# Altium schematic symbol library frames.SCHLIB: 30 symbols (part 1 of 2)
Pins are listed as number, name and electrical type; pins without a type are passive.

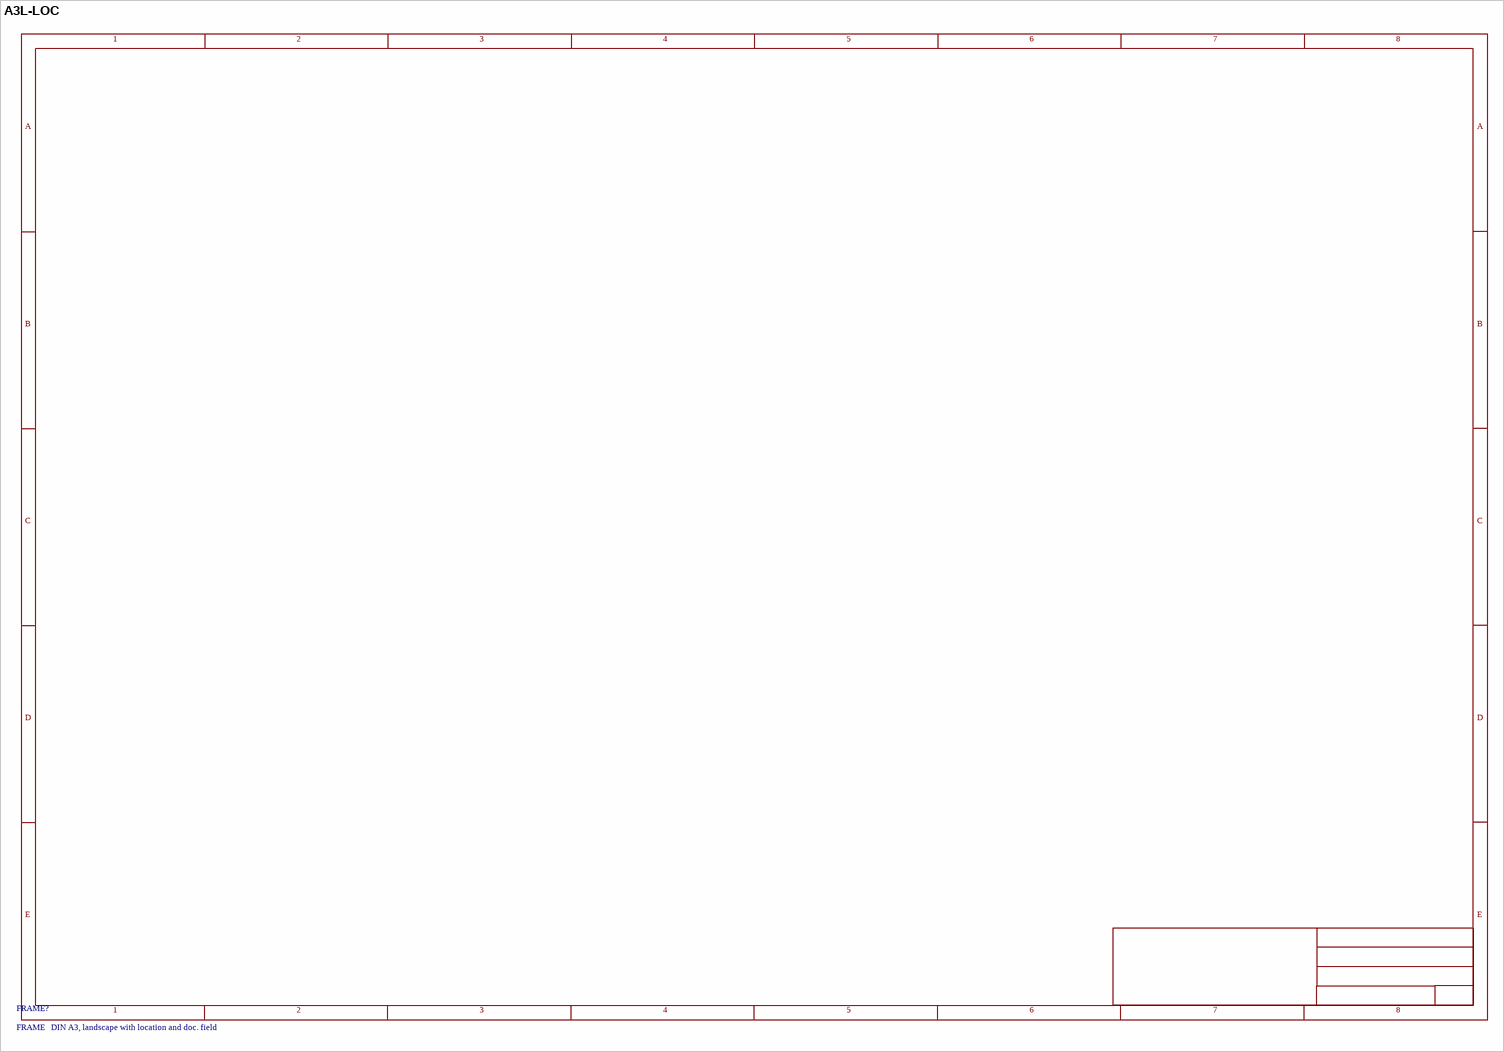
[diagram p0: symbol A3L-LOC]

## A3L-LOC
designator FRAME?, comment FRAME   DIN A3, landscape with location and doc. field
text: 1; 2; 3; 4; 5; 6; 7; 8; A; B; C; D; E

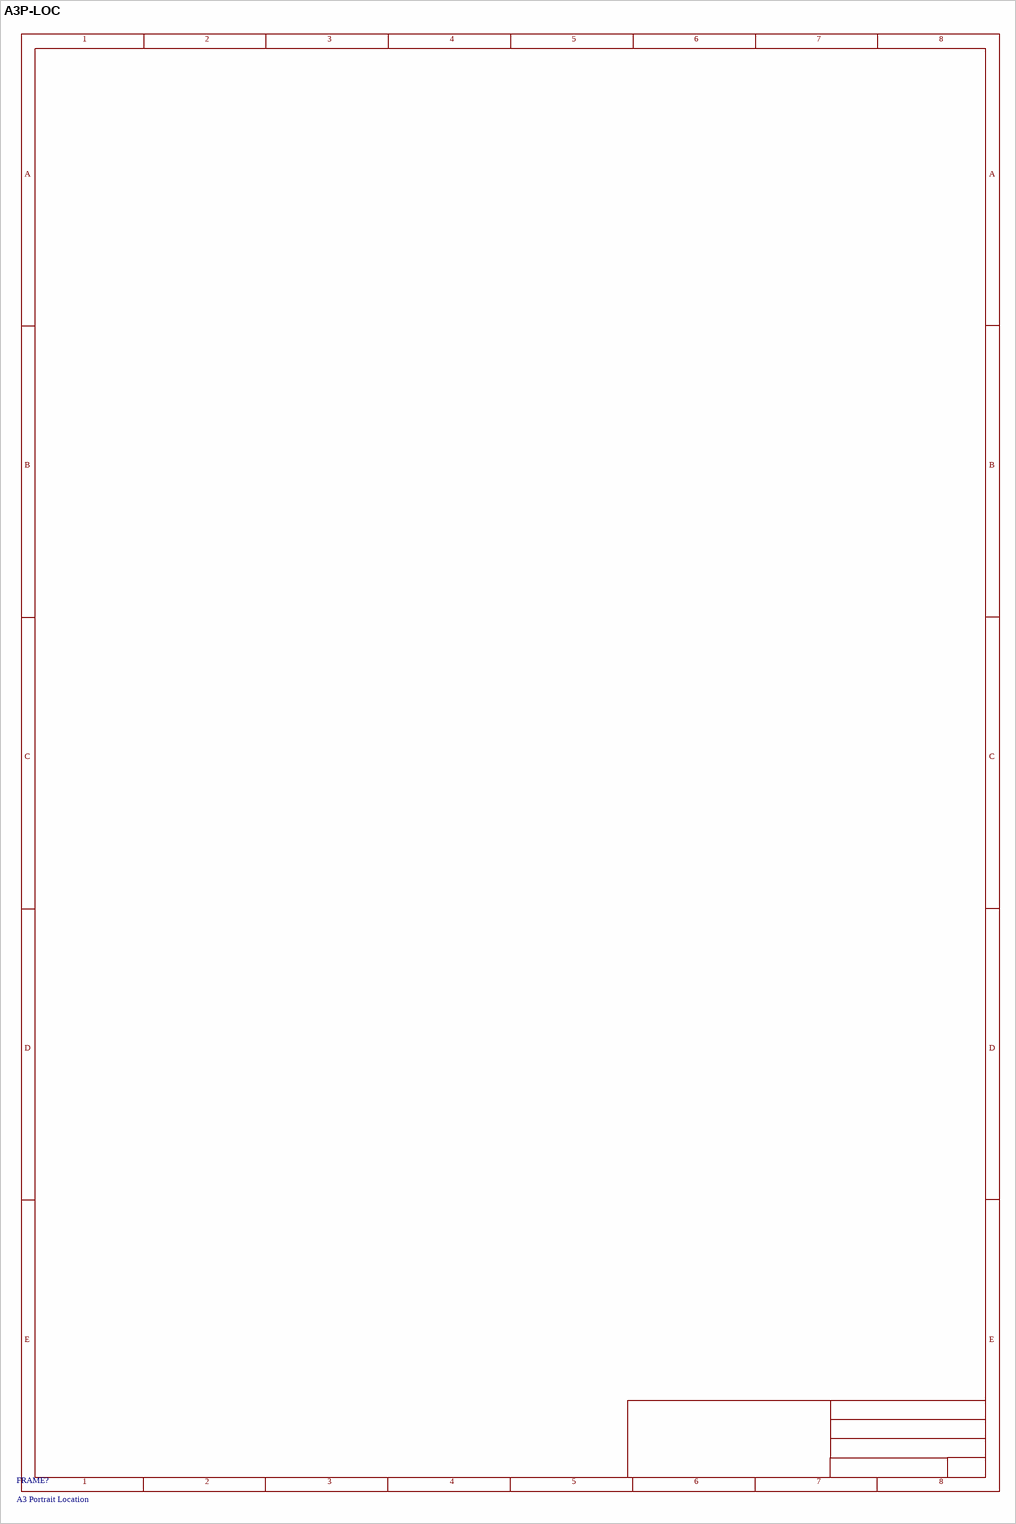
[diagram p1: symbol A3P-LOC]

## A3P-LOC
designator FRAME?, comment A3 Portrait Location
text: 1; 2; 3; 4; 5; 6; 7; 8; A; B; C; D; E

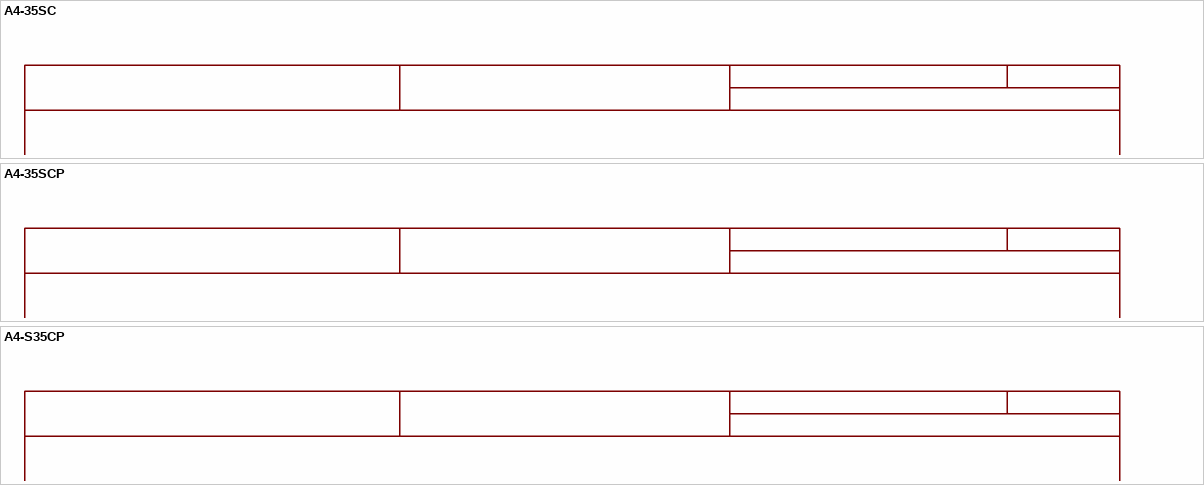
[diagram p2: symbols A4-35SC to A4-S35CP]

## A4-35SC
designator FRAME?, comment FRAME   DIN A4, 185 x 264 mm

## A4-35SCP
designator FRAME?, comment A4 35SCP

## A4-S35CP
designator FRAME?, comment FRAME   DIN A4, 185 x 276 mm

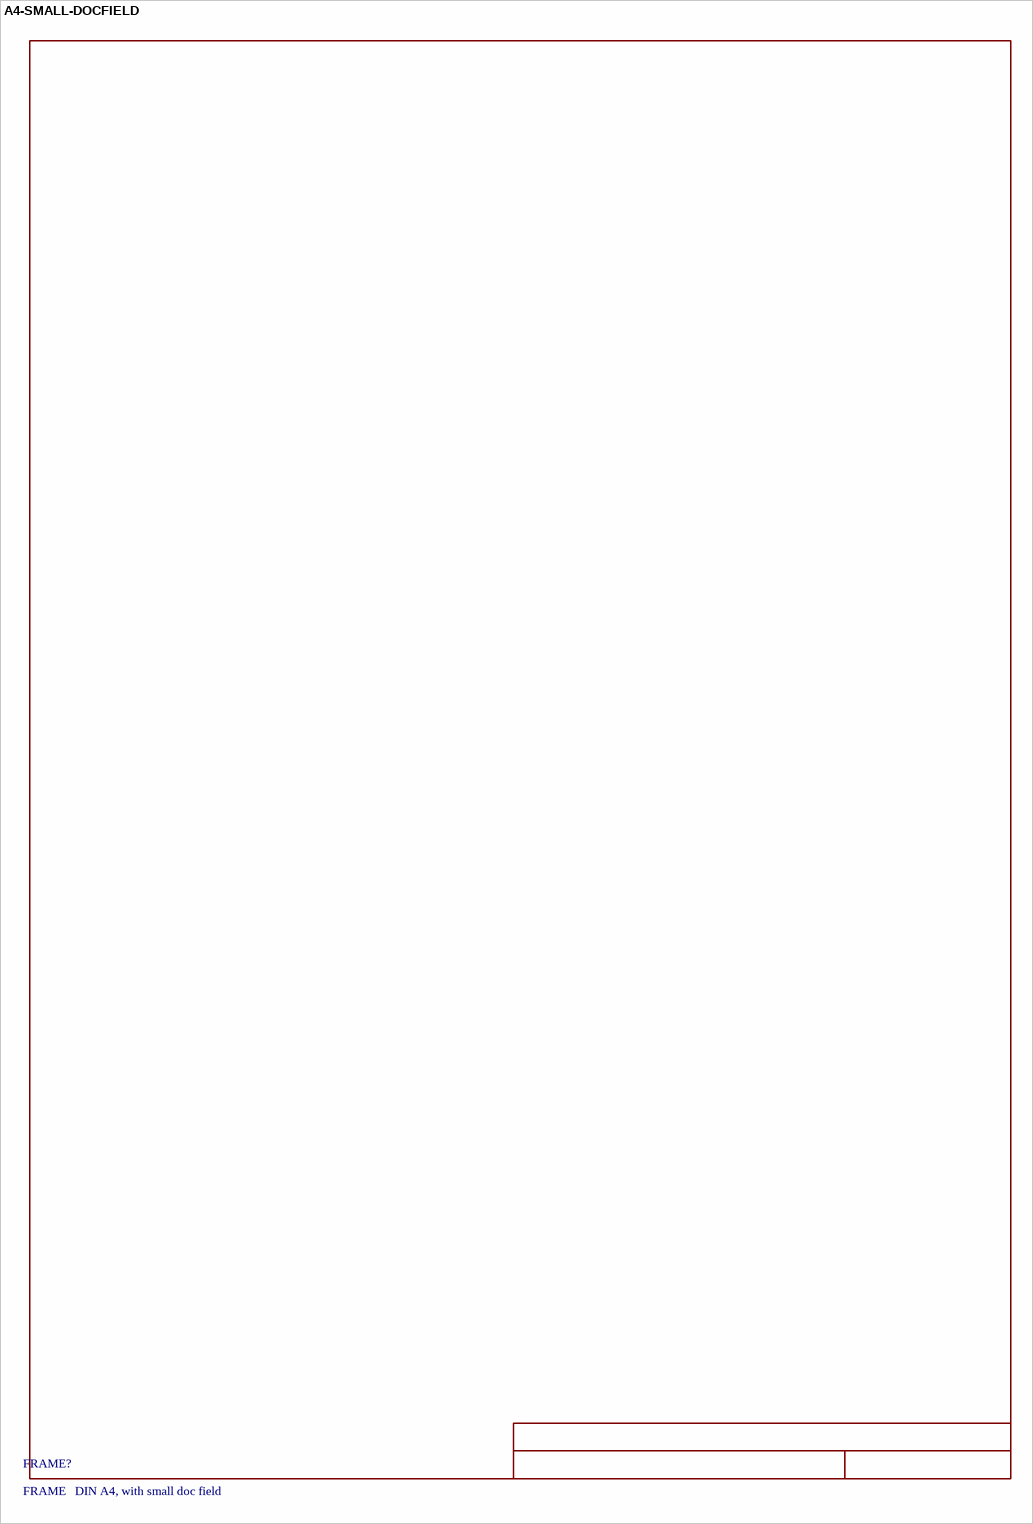
[diagram p3: symbol A4-SMALL-DOCFIELD]

## A4-SMALL-DOCFIELD
designator FRAME?, comment FRAME   DIN A4, with small doc field

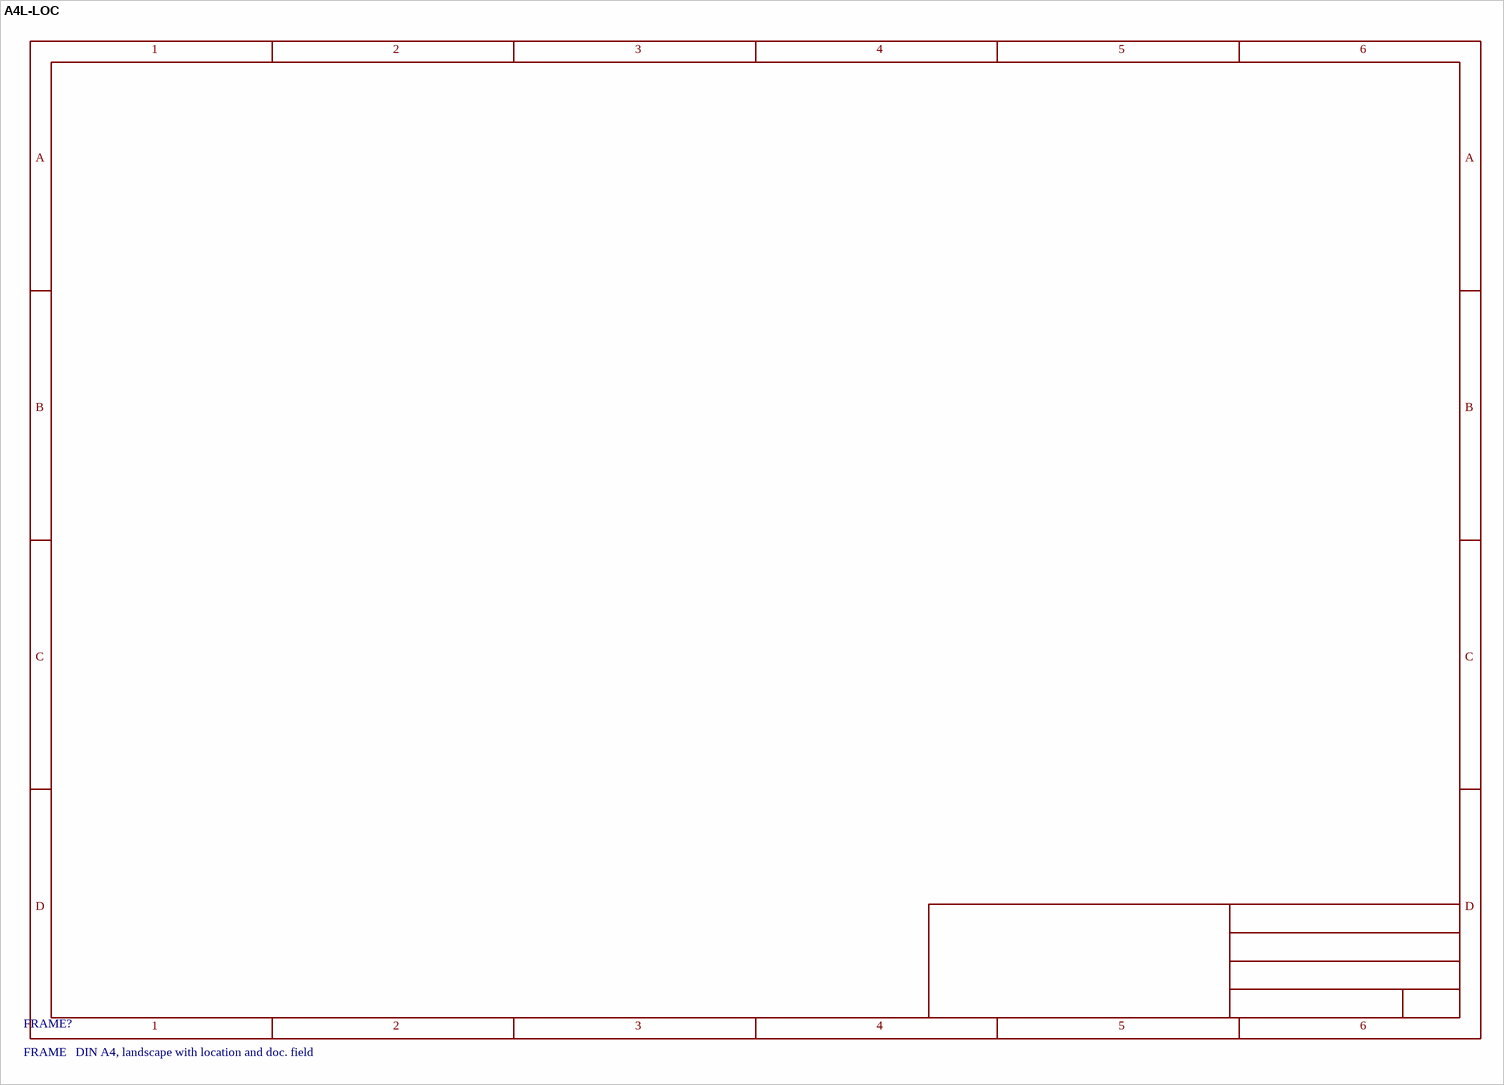
[diagram p4: symbol A4L-LOC]

## A4L-LOC
designator FRAME?, comment FRAME   DIN A4, landscape with location and doc. field
text: 1; 2; 3; 4; 5; 6; A; B; C; D

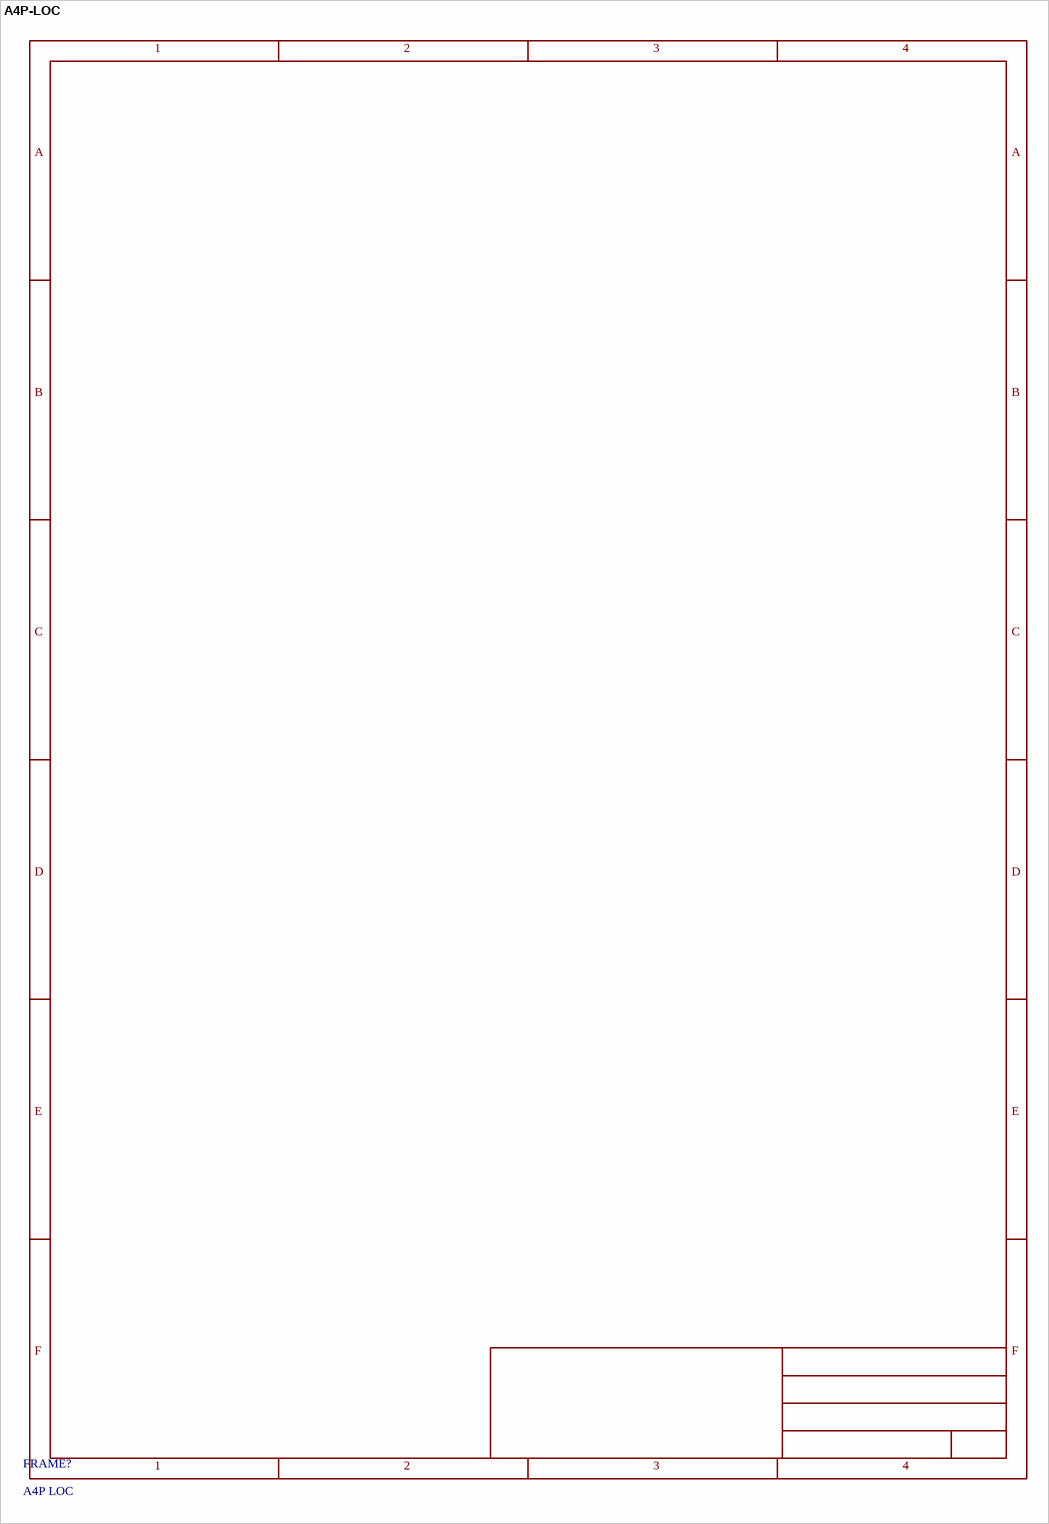
[diagram p5: symbol A4P-LOC]

## A4P-LOC
designator FRAME?, comment A4P LOC
text: 1; 2; 3; 4; A; B; C; D; E; F

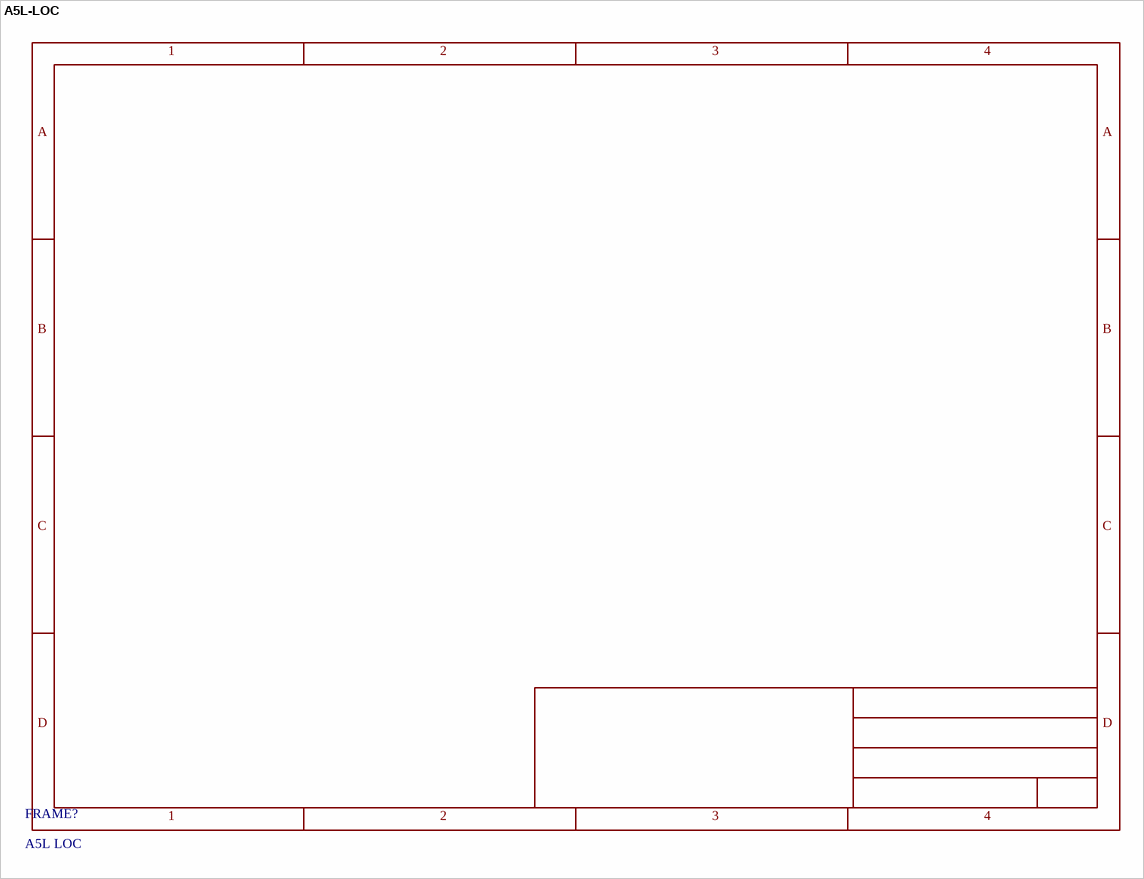
[diagram p6: symbol A5L-LOC]

## A5L-LOC
designator FRAME?, comment A5L LOC
text: 1; 2; 3; 4; A; B; C; D

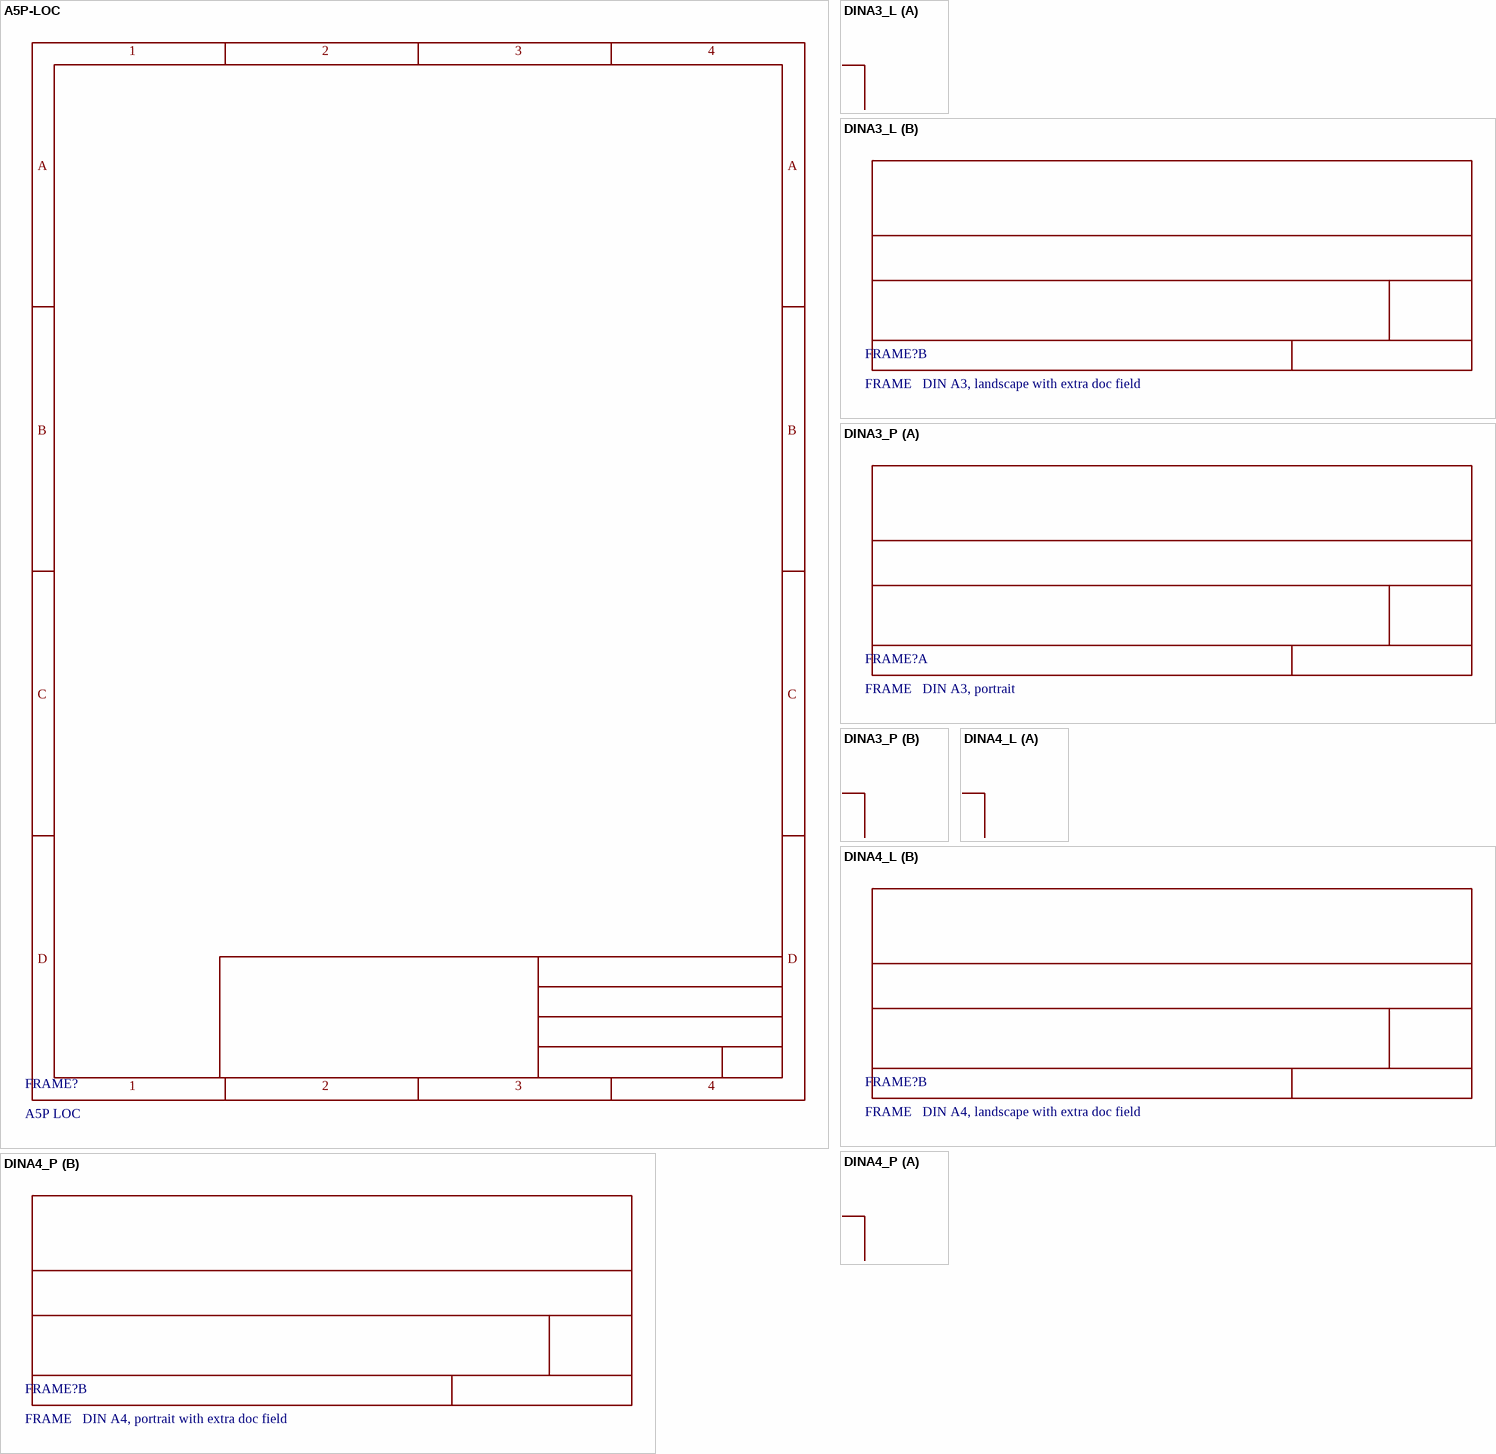
[diagram p7: symbols A5P-LOC to DINA4_P]

## A5P-LOC
designator FRAME?, comment A5P LOC
text: 1; 2; 3; 4; A; B; C; D

## DINA3_L
designator FRAME?, comment FRAME   DIN A3, landscape with extra doc field

## DINA3_P
designator FRAME?, comment FRAME   DIN A3, portrait

## DINA4_L
designator FRAME?, comment FRAME   DIN A4, landscape with extra doc field

## DINA4_P
designator FRAME?, comment FRAME   DIN A4, portrait with extra doc field

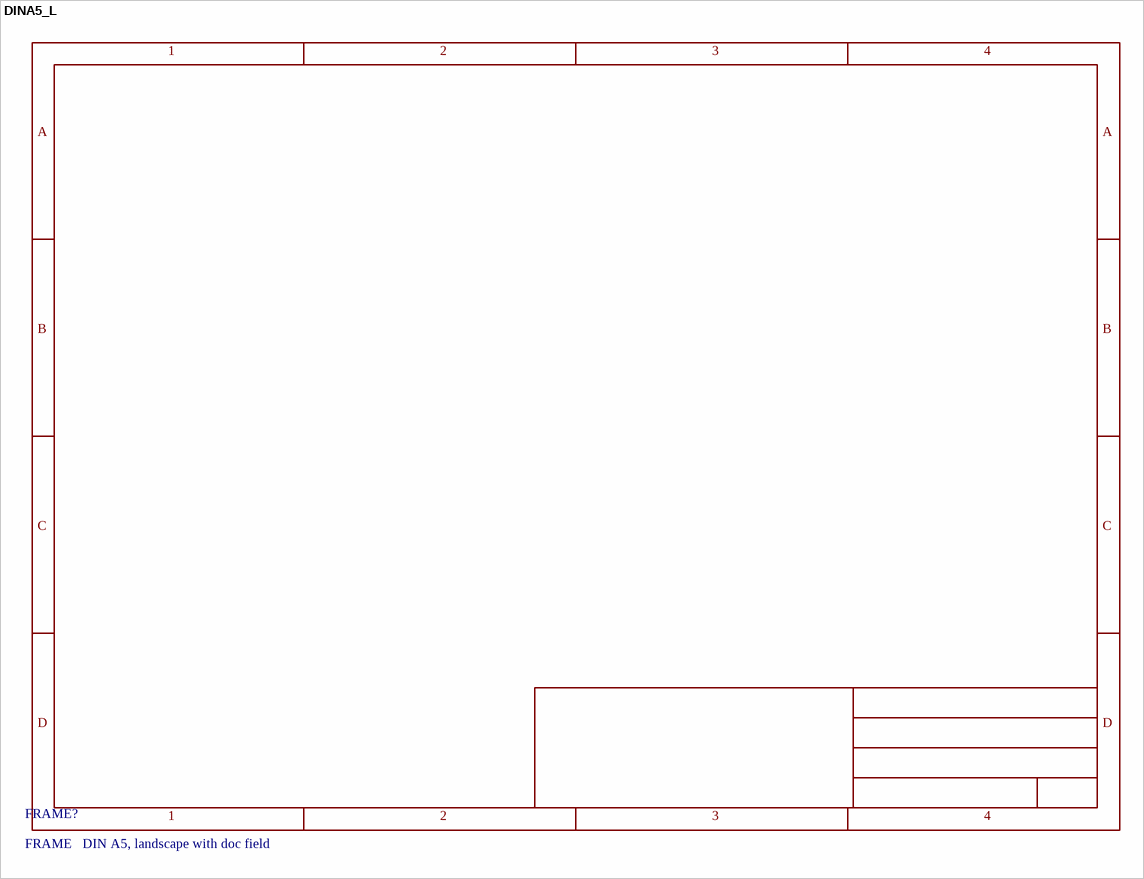
[diagram p8: symbol DINA5_L]

## DINA5_L
designator FRAME?, comment FRAME   DIN A5, landscape with doc field
text: 1; 2; 3; 4; A; B; C; D

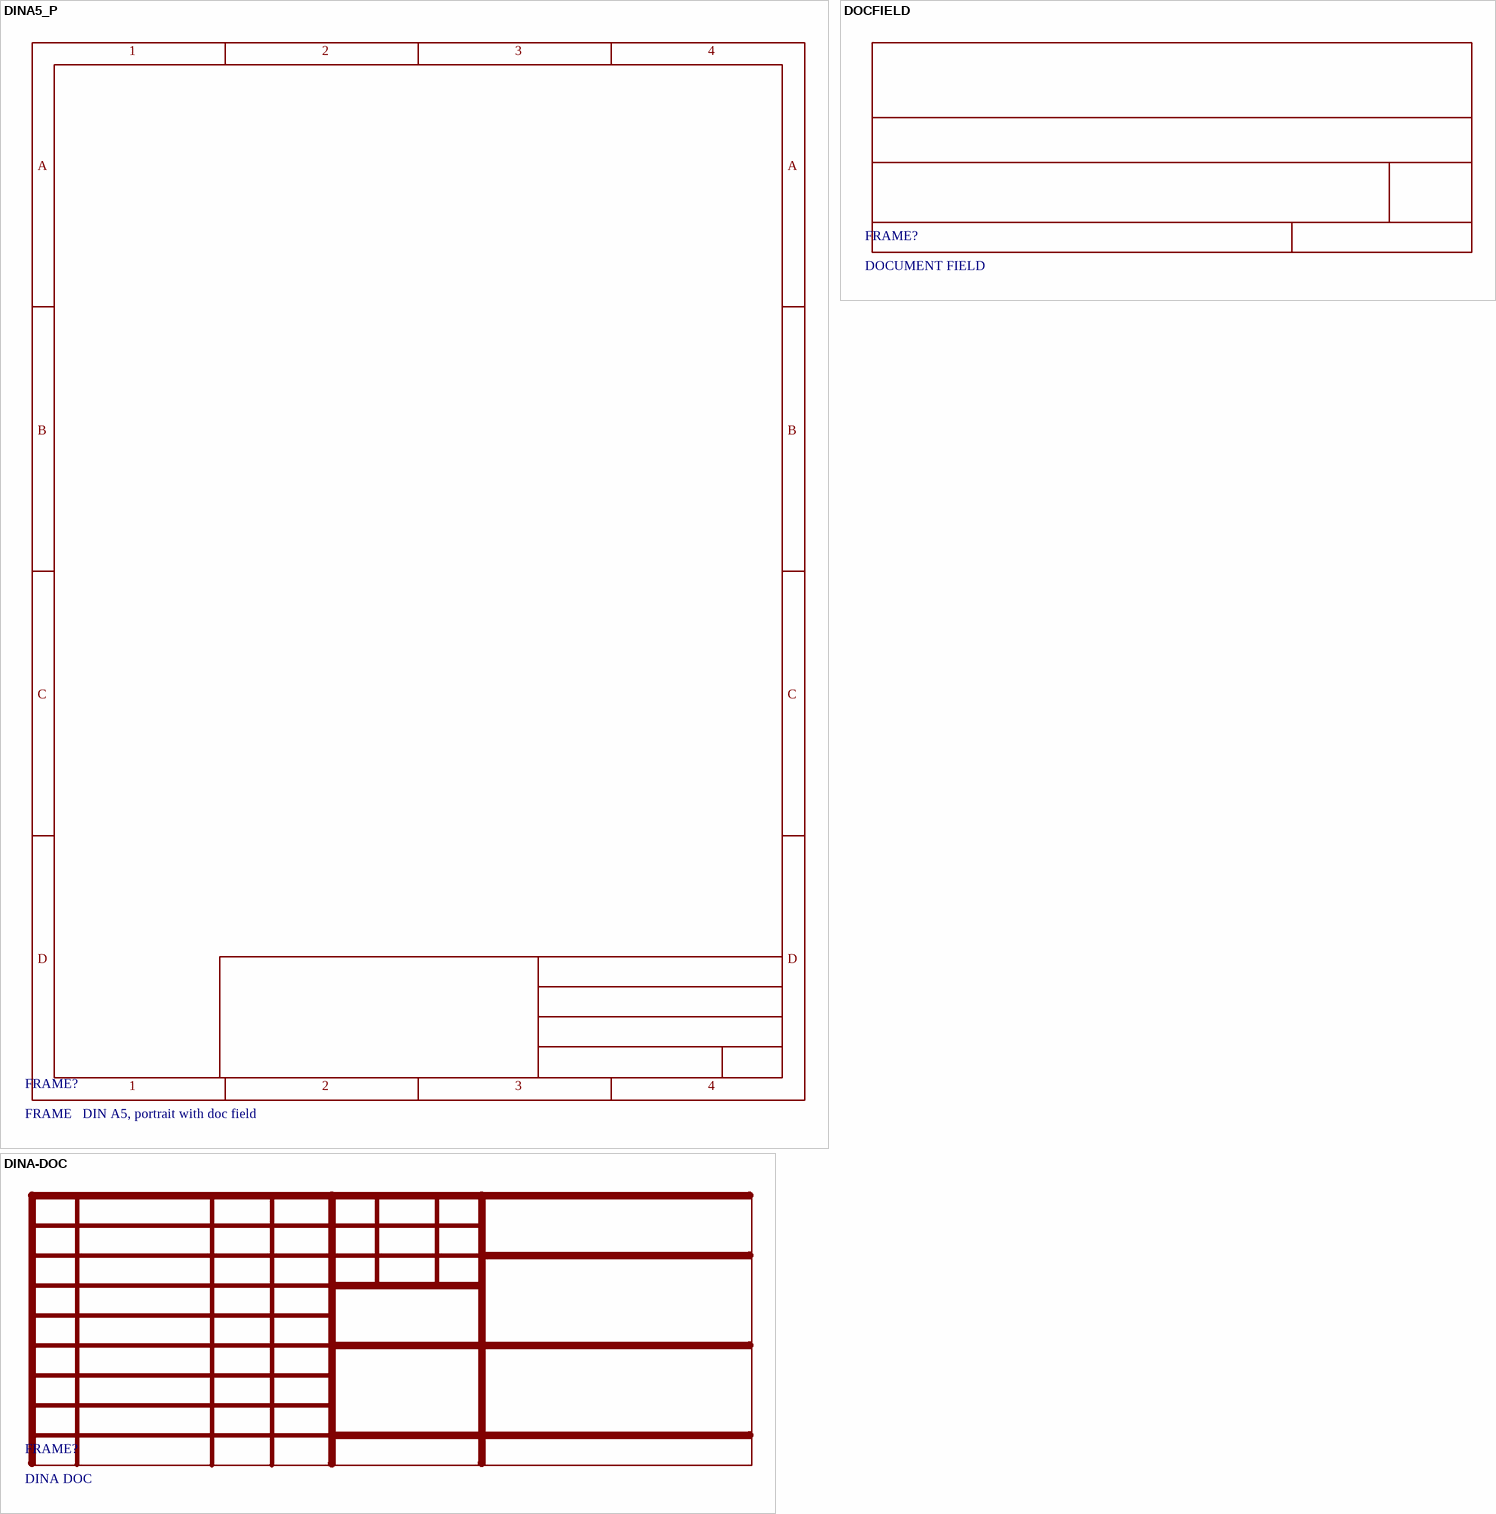
[diagram p9: symbols DINA5_P to DOCFIELD]

## DINA5_P
designator FRAME?, comment FRAME   DIN A5, portrait with doc field
text: 1; 2; 3; 4; A; B; C; D

## DINA-DOC
designator FRAME?, comment DINA DOC

## DOCFIELD
designator FRAME?, comment DOCUMENT FIELD

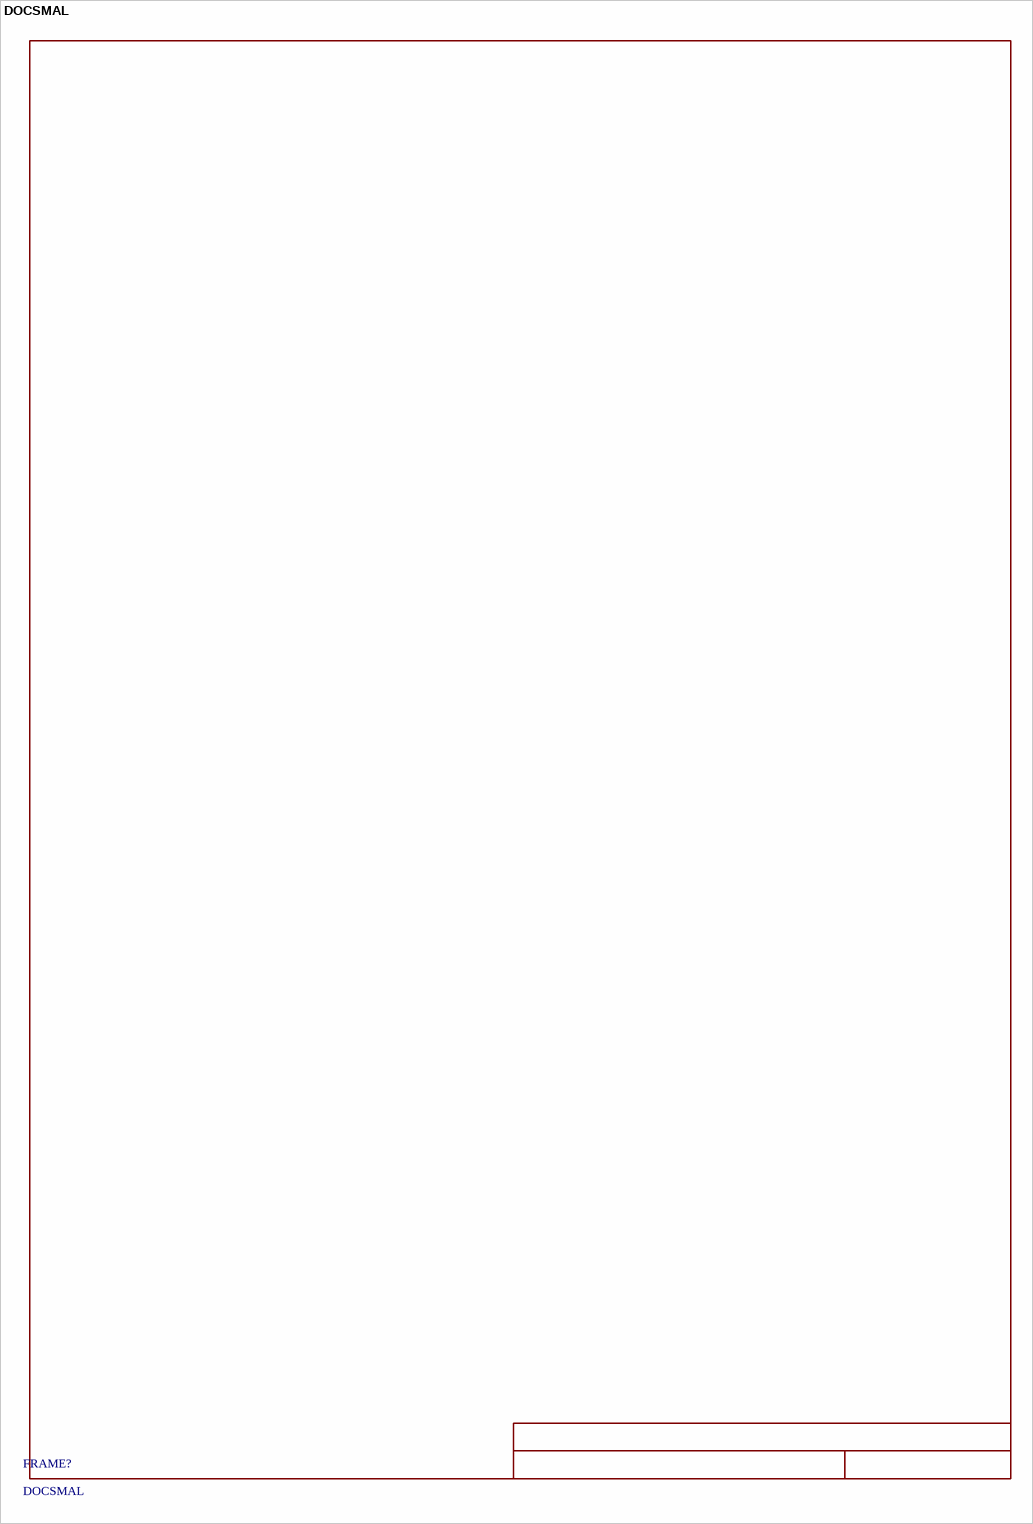
[diagram p10: symbol DOCSMAL]

## DOCSMAL
designator FRAME?

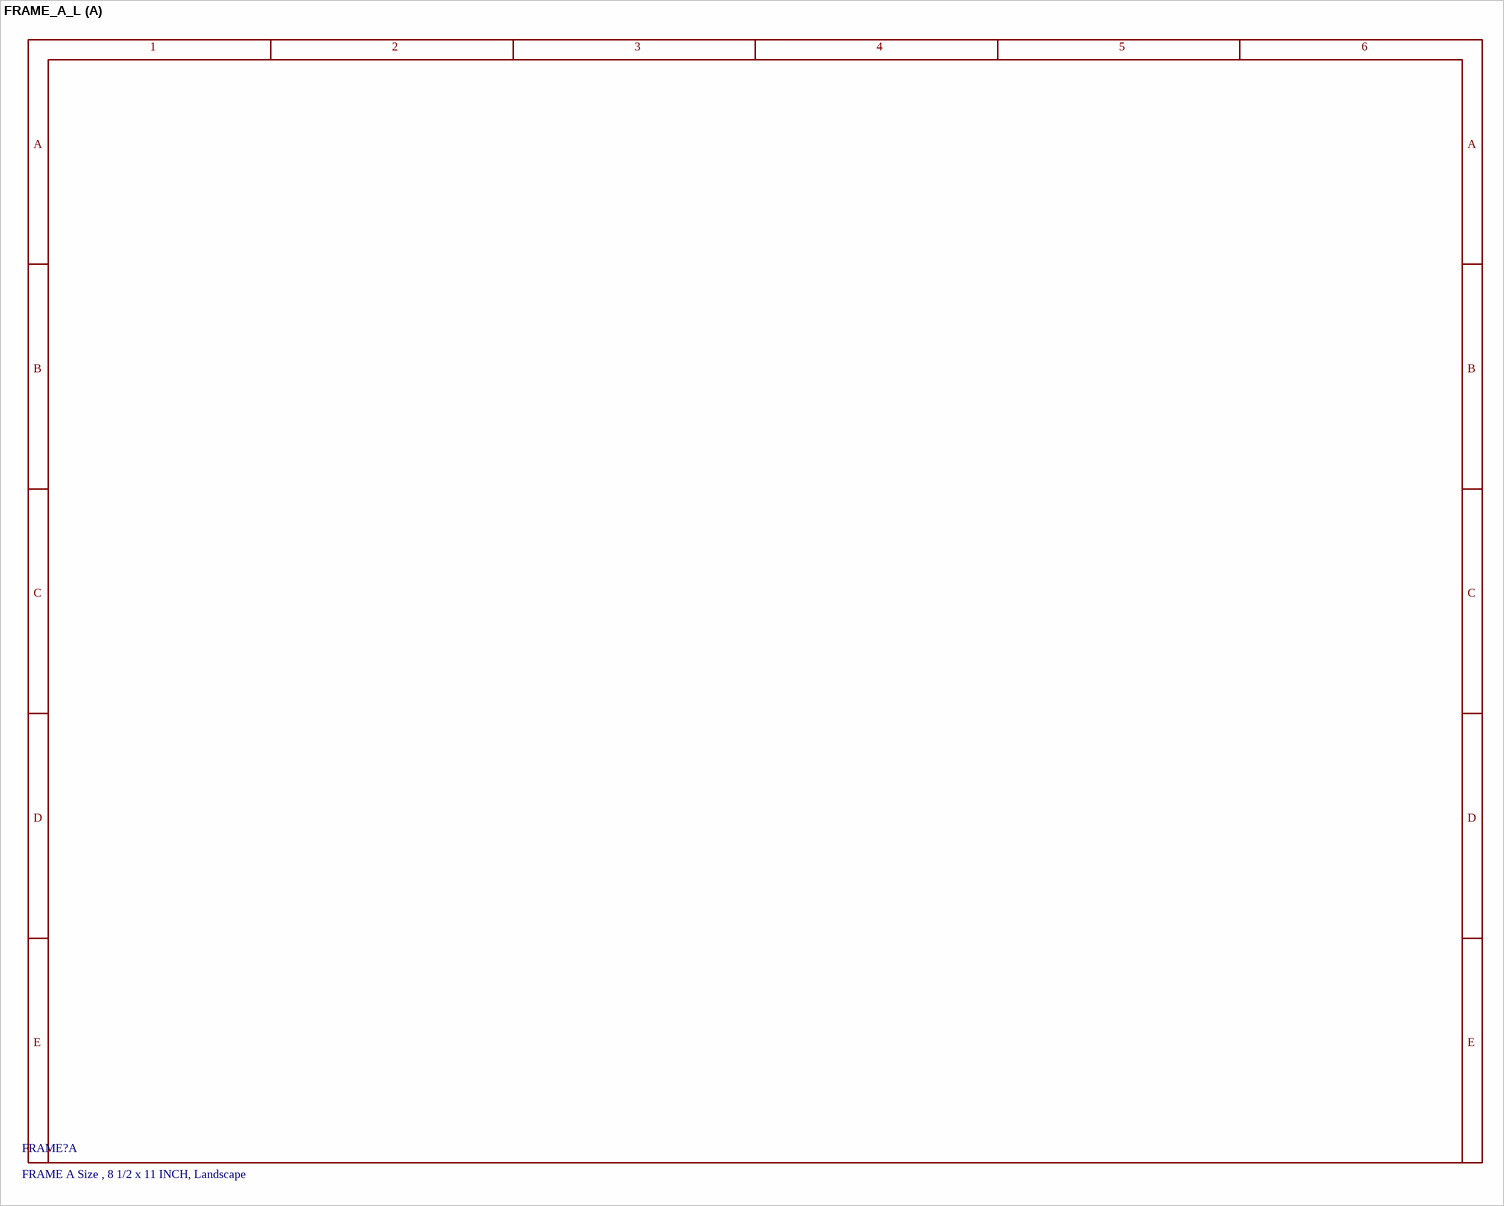
[diagram p11: symbol FRAME_A_L]

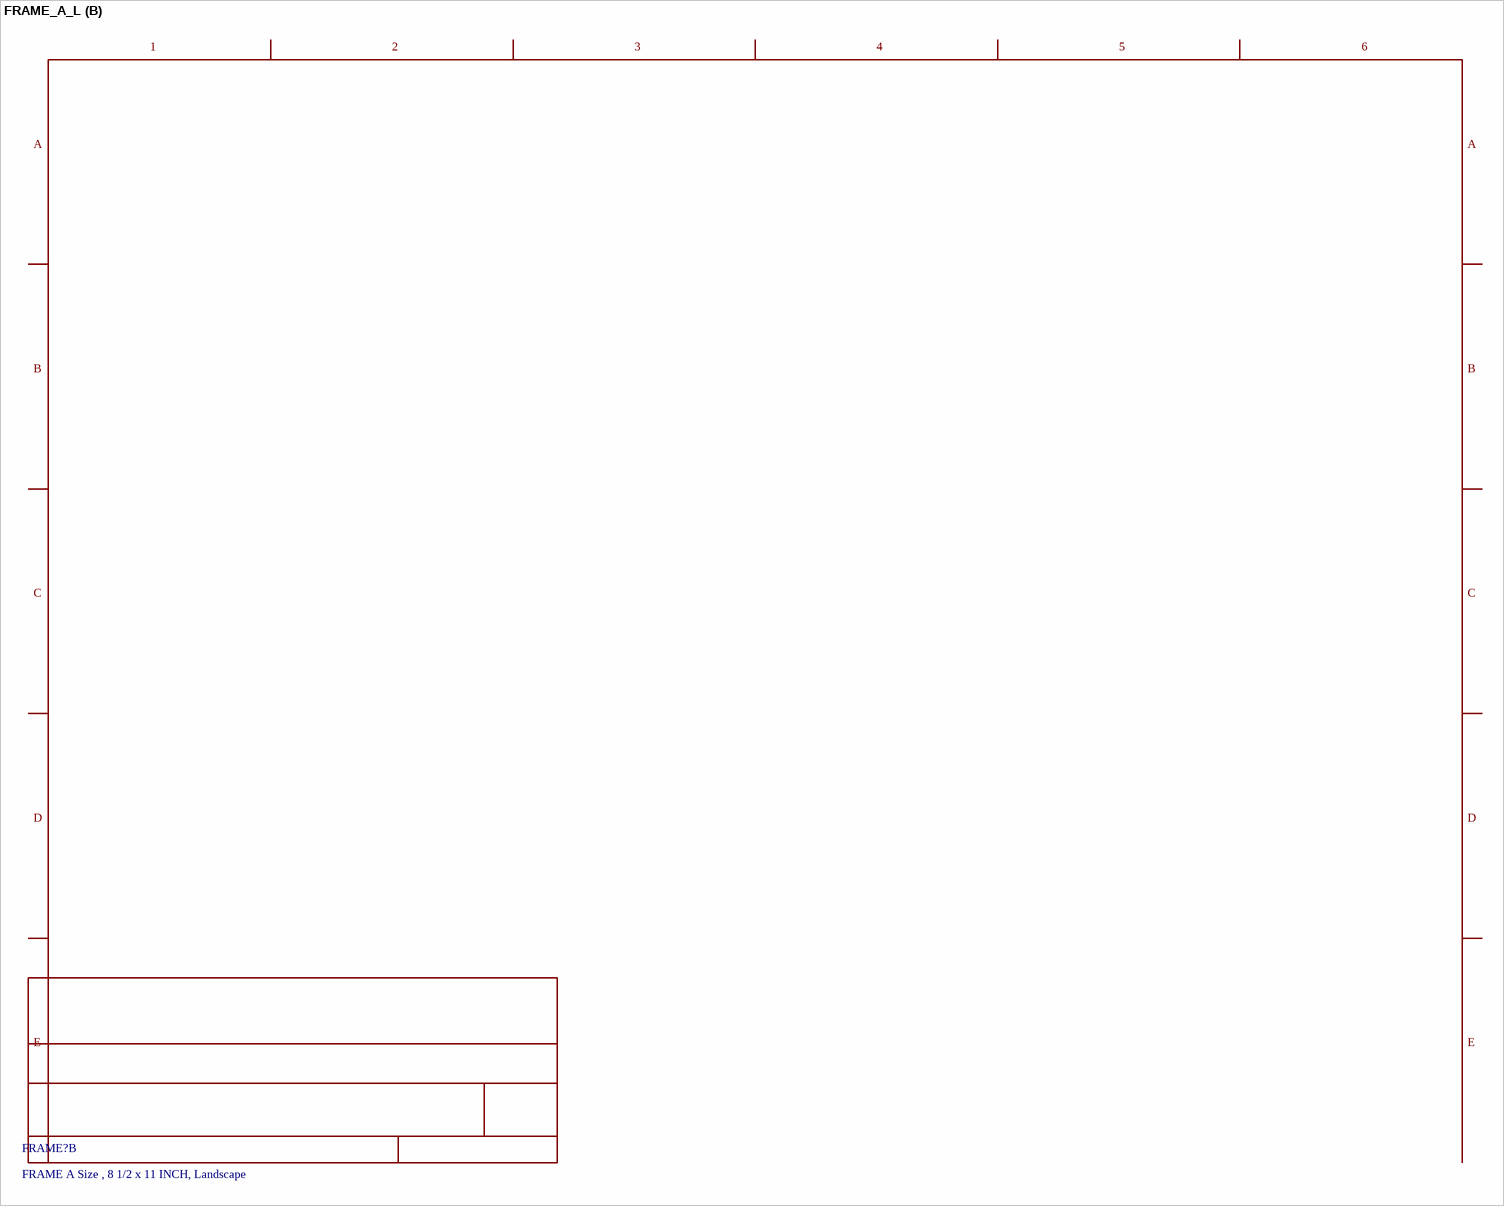
[diagram p12: symbol FRAME_A_L]

## FRAME_A_L
designator FRAME?, comment FRAME A Size , 8 1/2 x 11 INCH, Landscape
text on every part: 1; 2; 3; 4; 5; 6; A; B; C; D; E

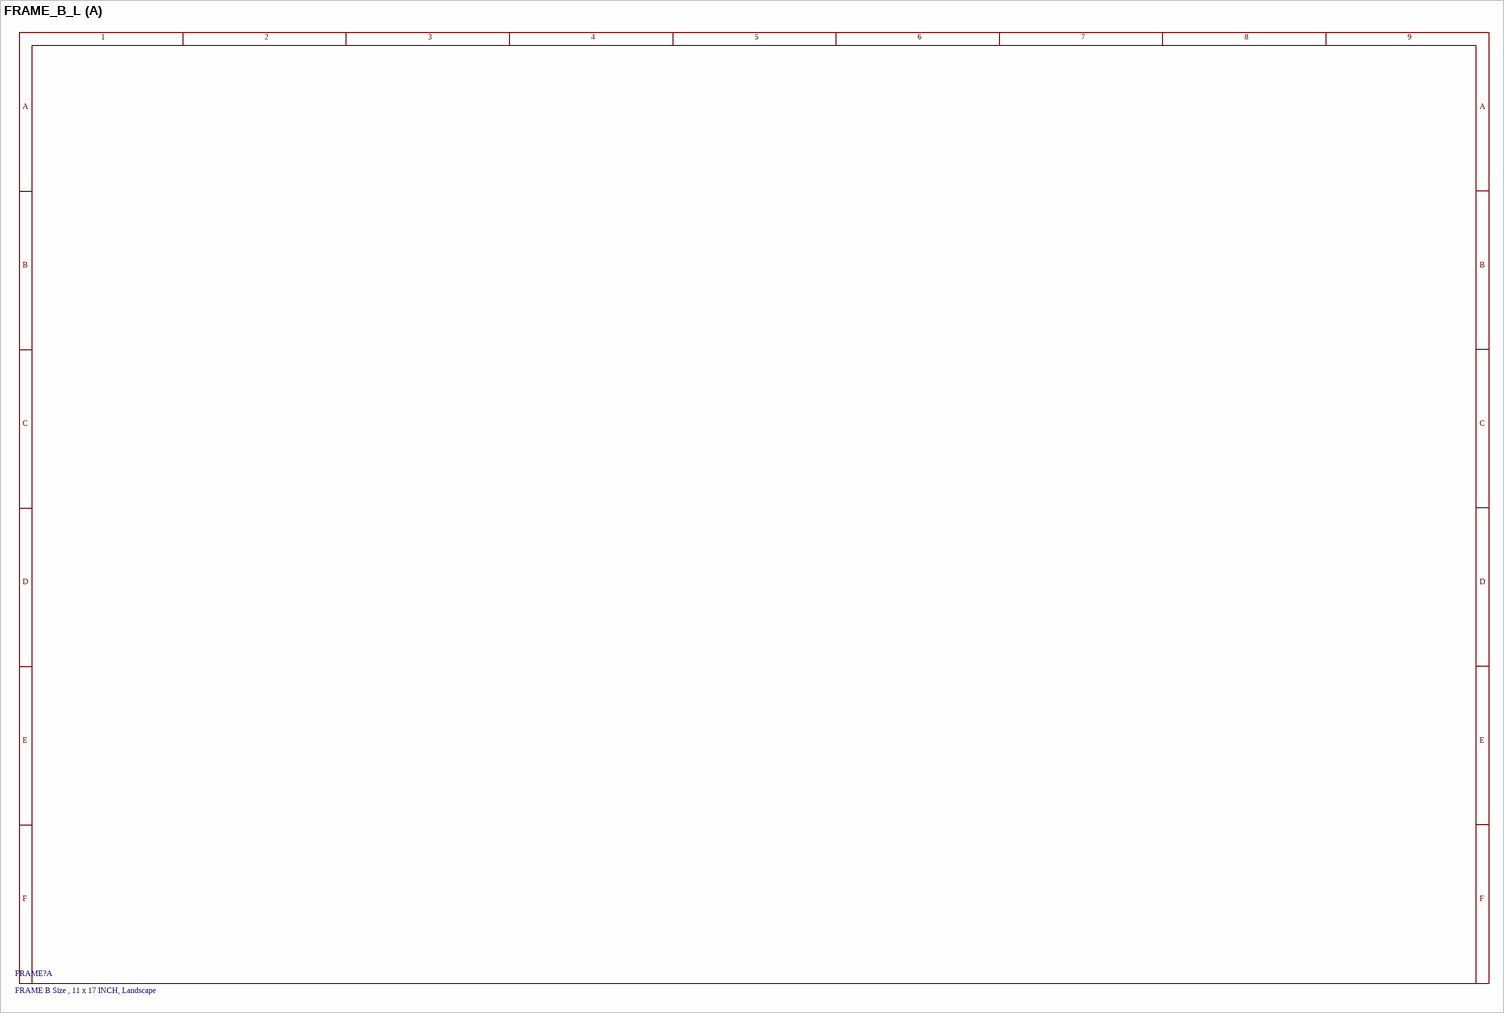
[diagram p13: symbol FRAME_B_L]

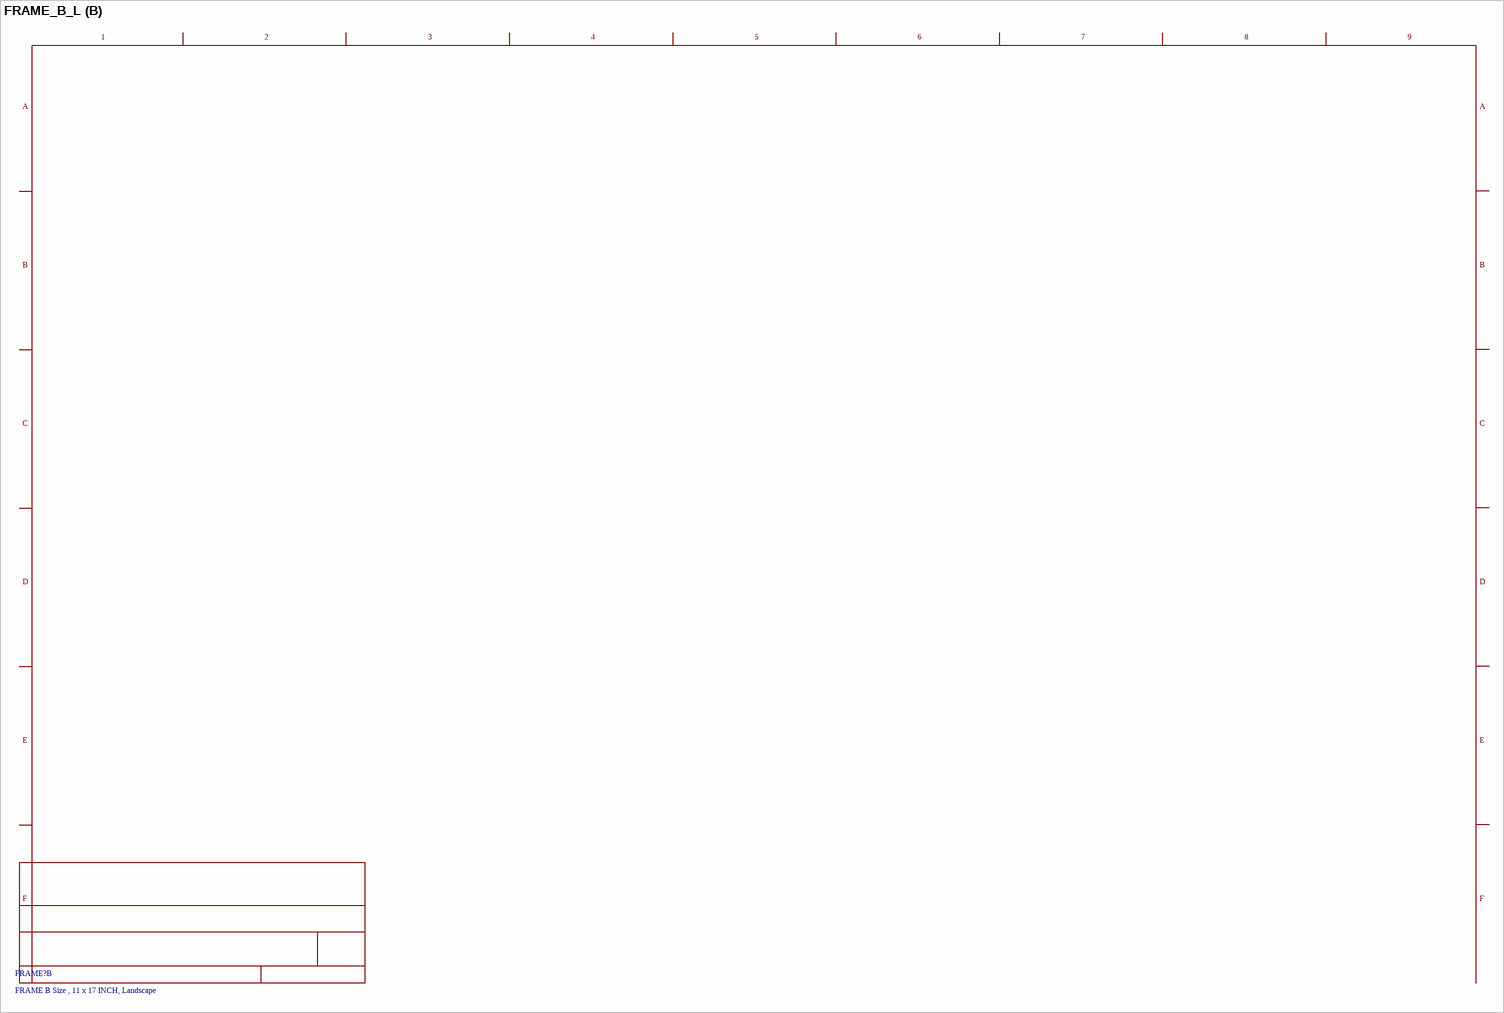
[diagram p14: symbol FRAME_B_L]

## FRAME_B_L
designator FRAME?, comment FRAME B Size , 11 x 17 INCH, Landscape
text on every part: 1; 2; 3; 4; 5; 6; 7; 8; 9; A; B; C; D; E; F

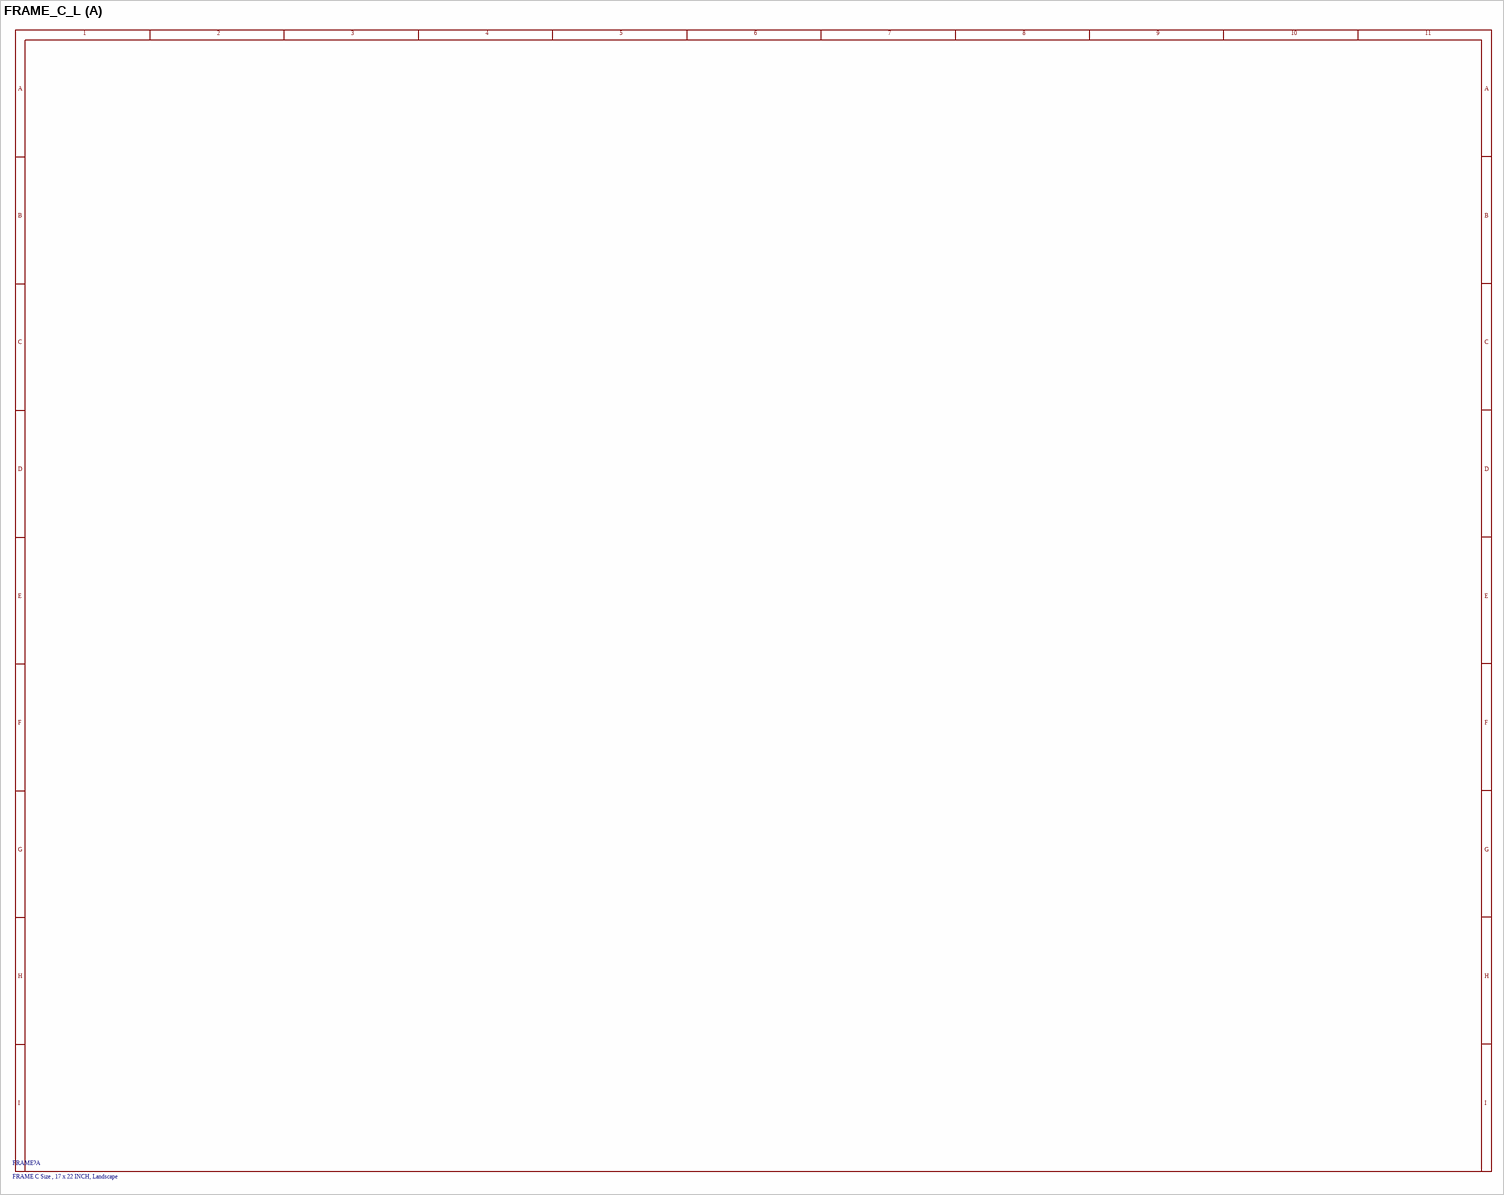
[diagram p15: symbol FRAME_C_L]

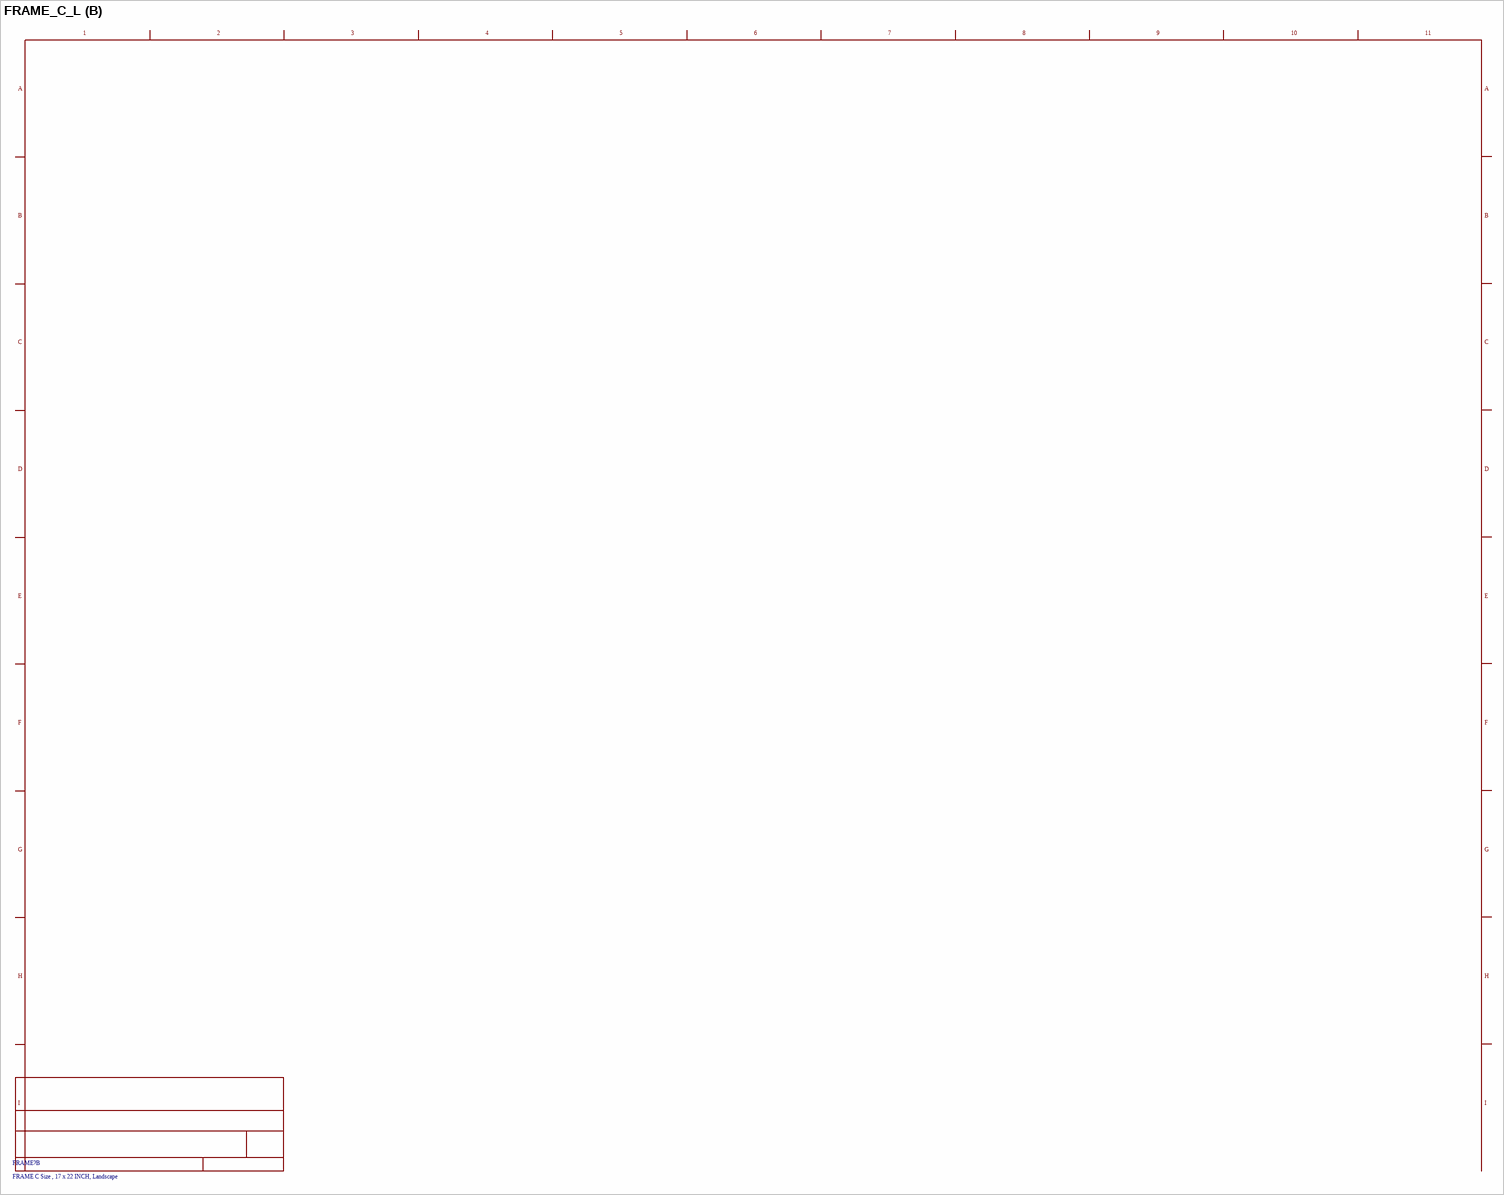
[diagram p16: symbol FRAME_C_L]

## FRAME_C_L
designator FRAME?, comment FRAME C Size , 17 x 22 INCH, Landscape
text on every part: 1; 2; 3; 4; 5; 6; 7; 8; 9; 10; 11; A; B; C; D; E; F; G; H; I

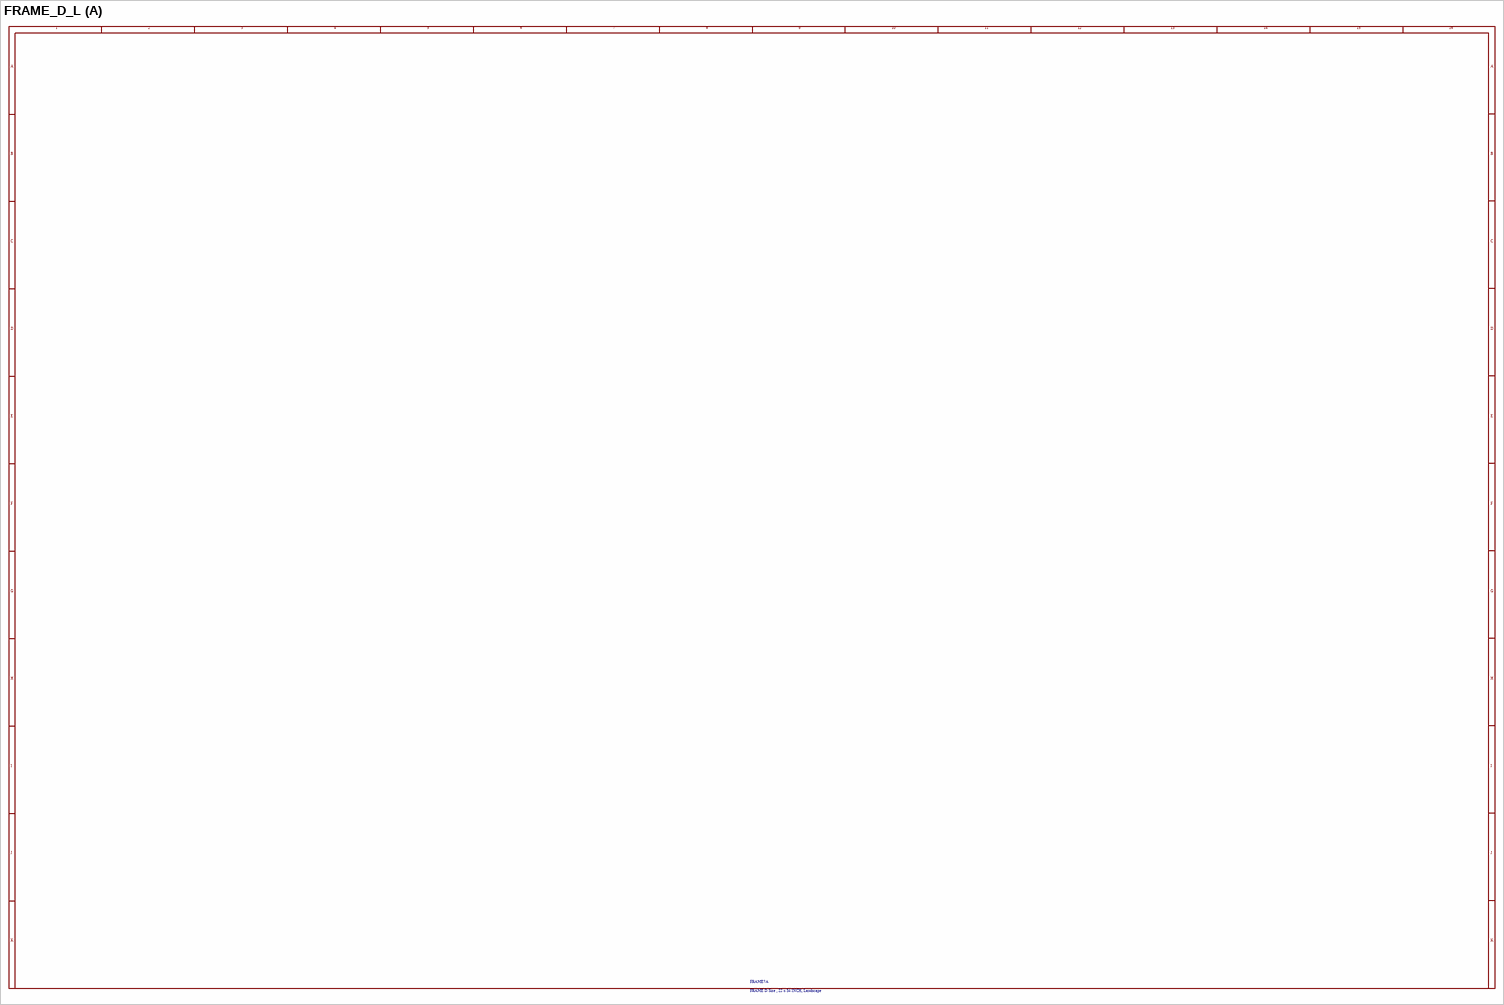
[diagram p17: symbol FRAME_D_L]

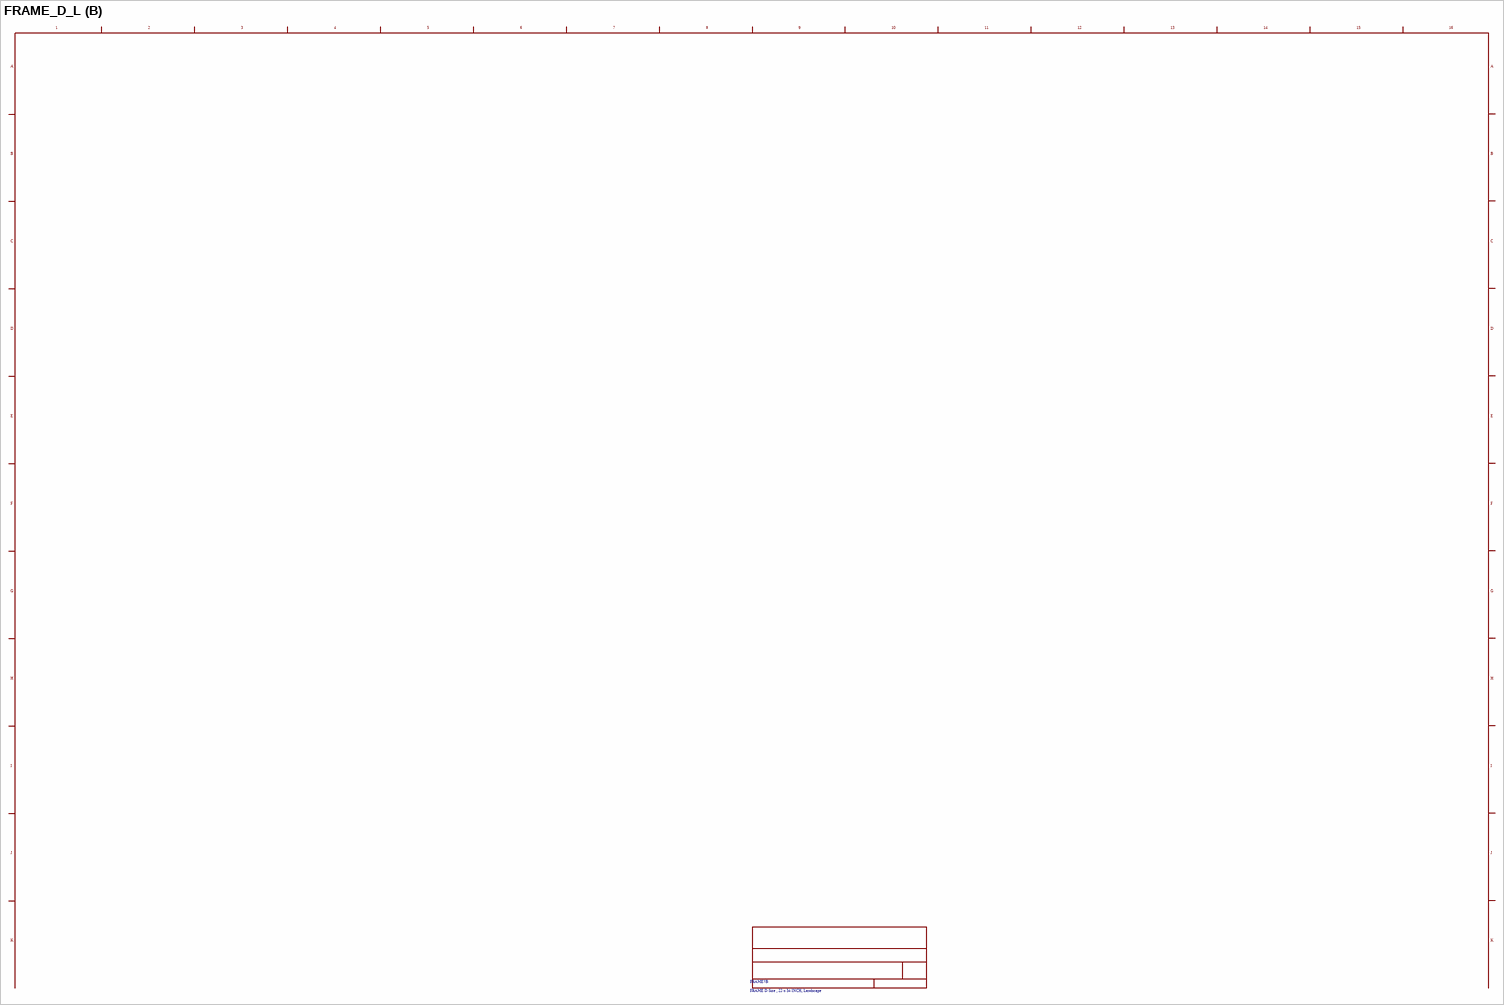
[diagram p18: symbol FRAME_D_L]

## FRAME_D_L
designator FRAME?, comment FRAME D Size , 22 x 34 INCH, Landscape
text on every part: 1; 2; 3; 4; 5; 6; 7; 8; 9; 10; 11; 12; 13; 14; 15; 16; A; B; C; D; E; F; G; H; I; J; K

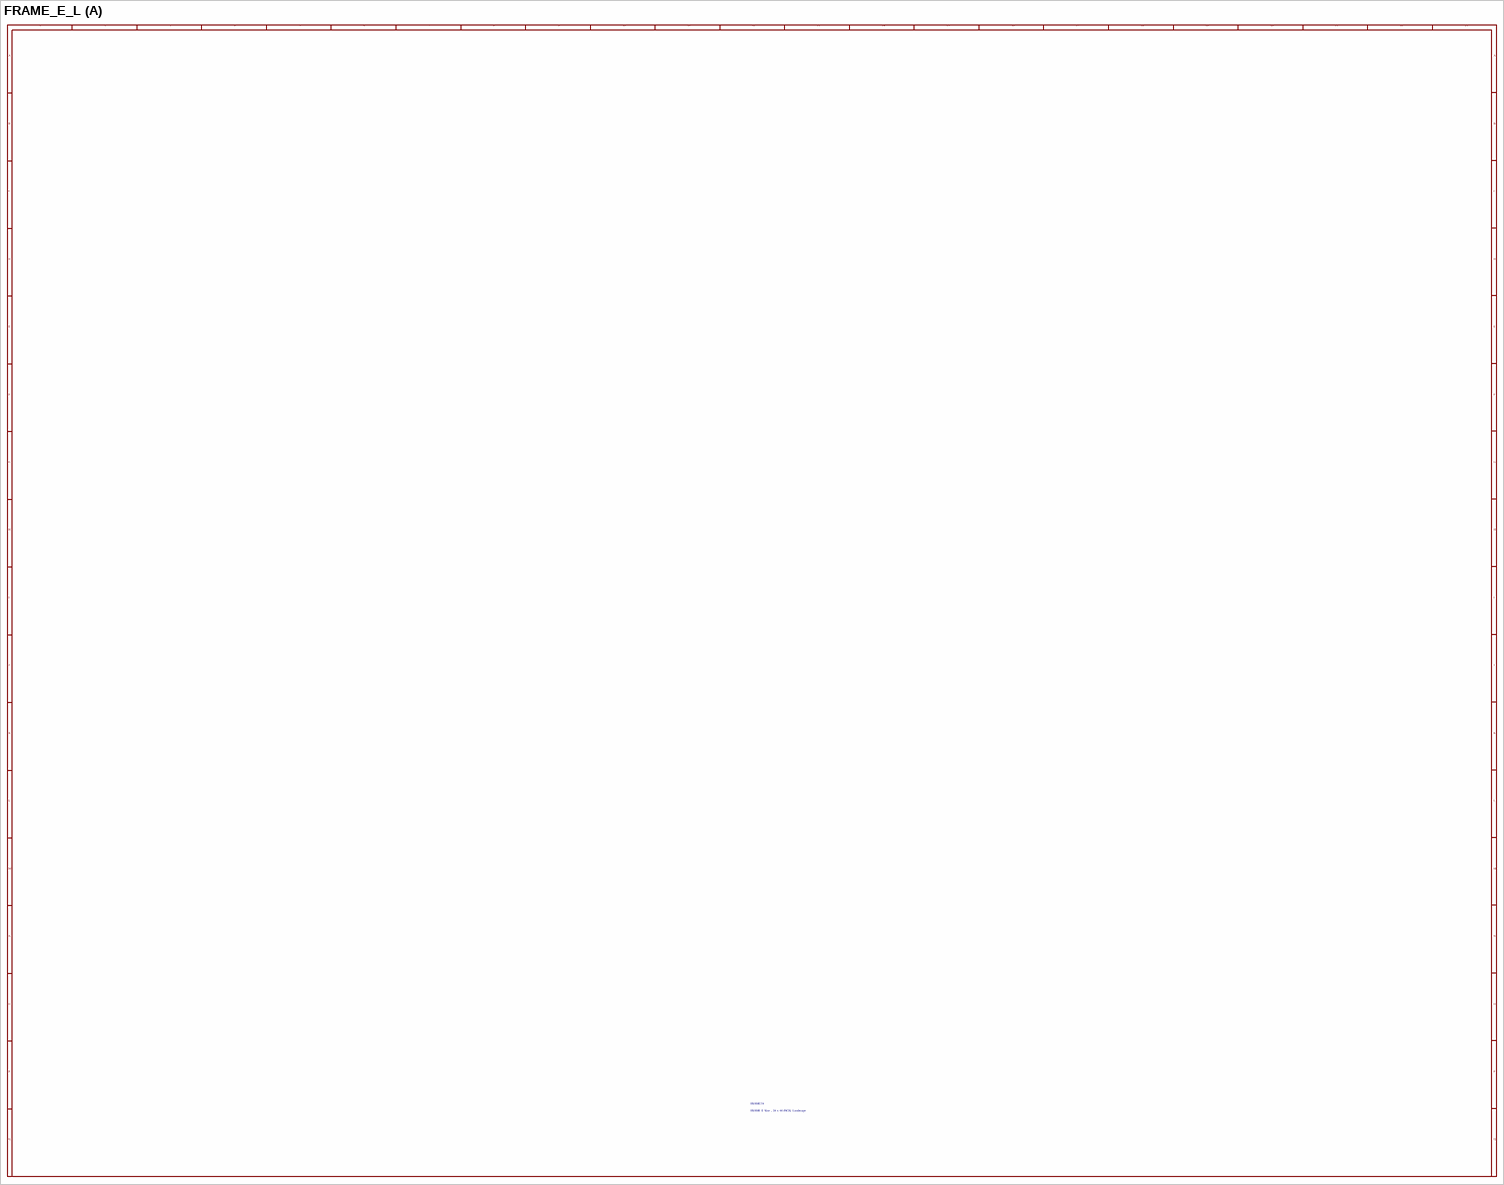
[diagram p19: symbol FRAME_E_L]

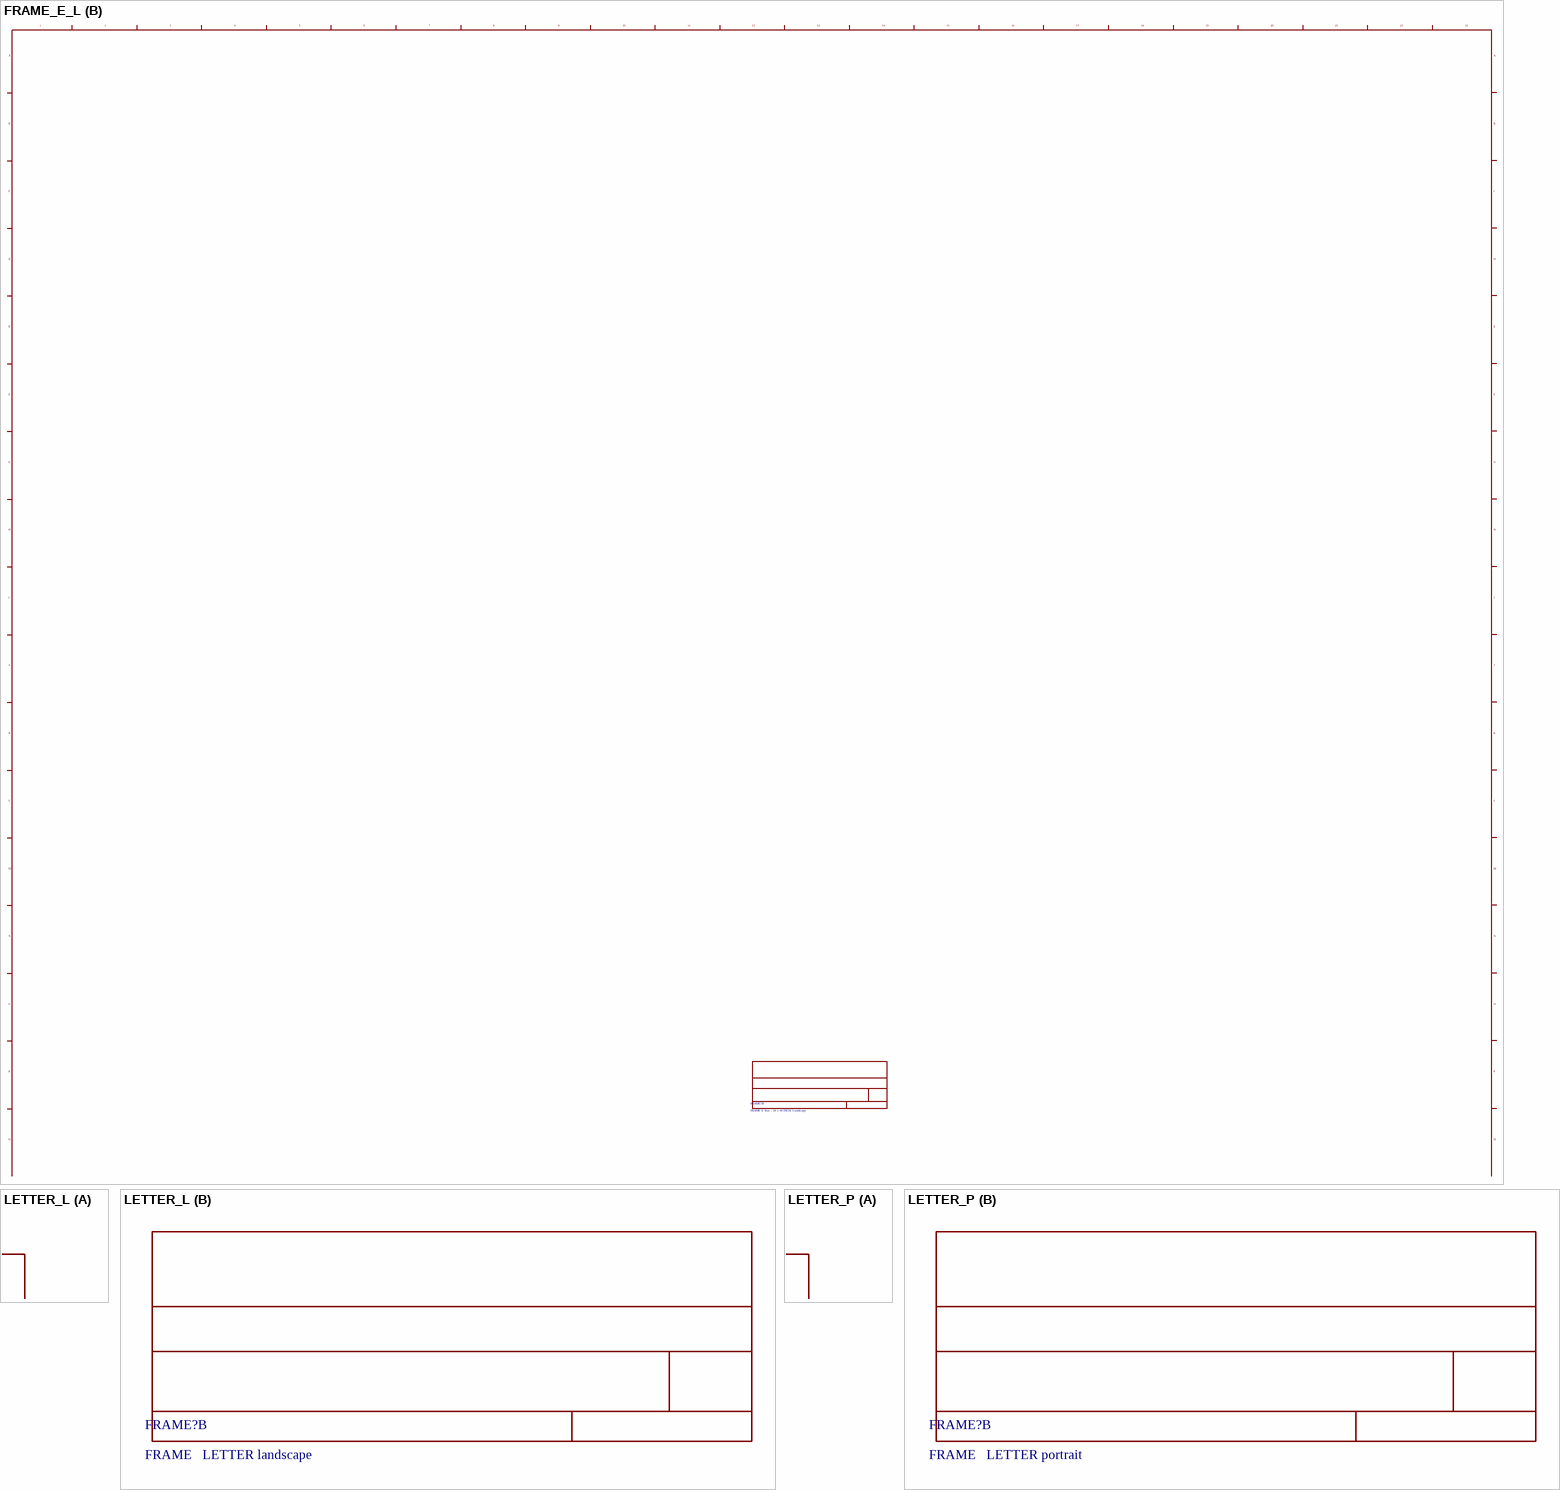
[diagram p20: symbols FRAME_E_L to LETTER_P]

## FRAME_E_L
designator FRAME?, comment FRAME E Size , 34 x 44 INCH, Landscape
text on every part: 1; 2; 3; 4; 5; 6; 7; 8; 9; 10; 11; 12; 13; 14; 15; 16; 17; 18; 19; 20; 21; 22; 23; A; B; C; D; E; F; G; H; I; J; K; L; M; N; O; P; Q

## LETTER_L
designator FRAME?, comment FRAME   LETTER landscape

## LETTER_P
designator FRAME?, comment FRAME   LETTER portrait

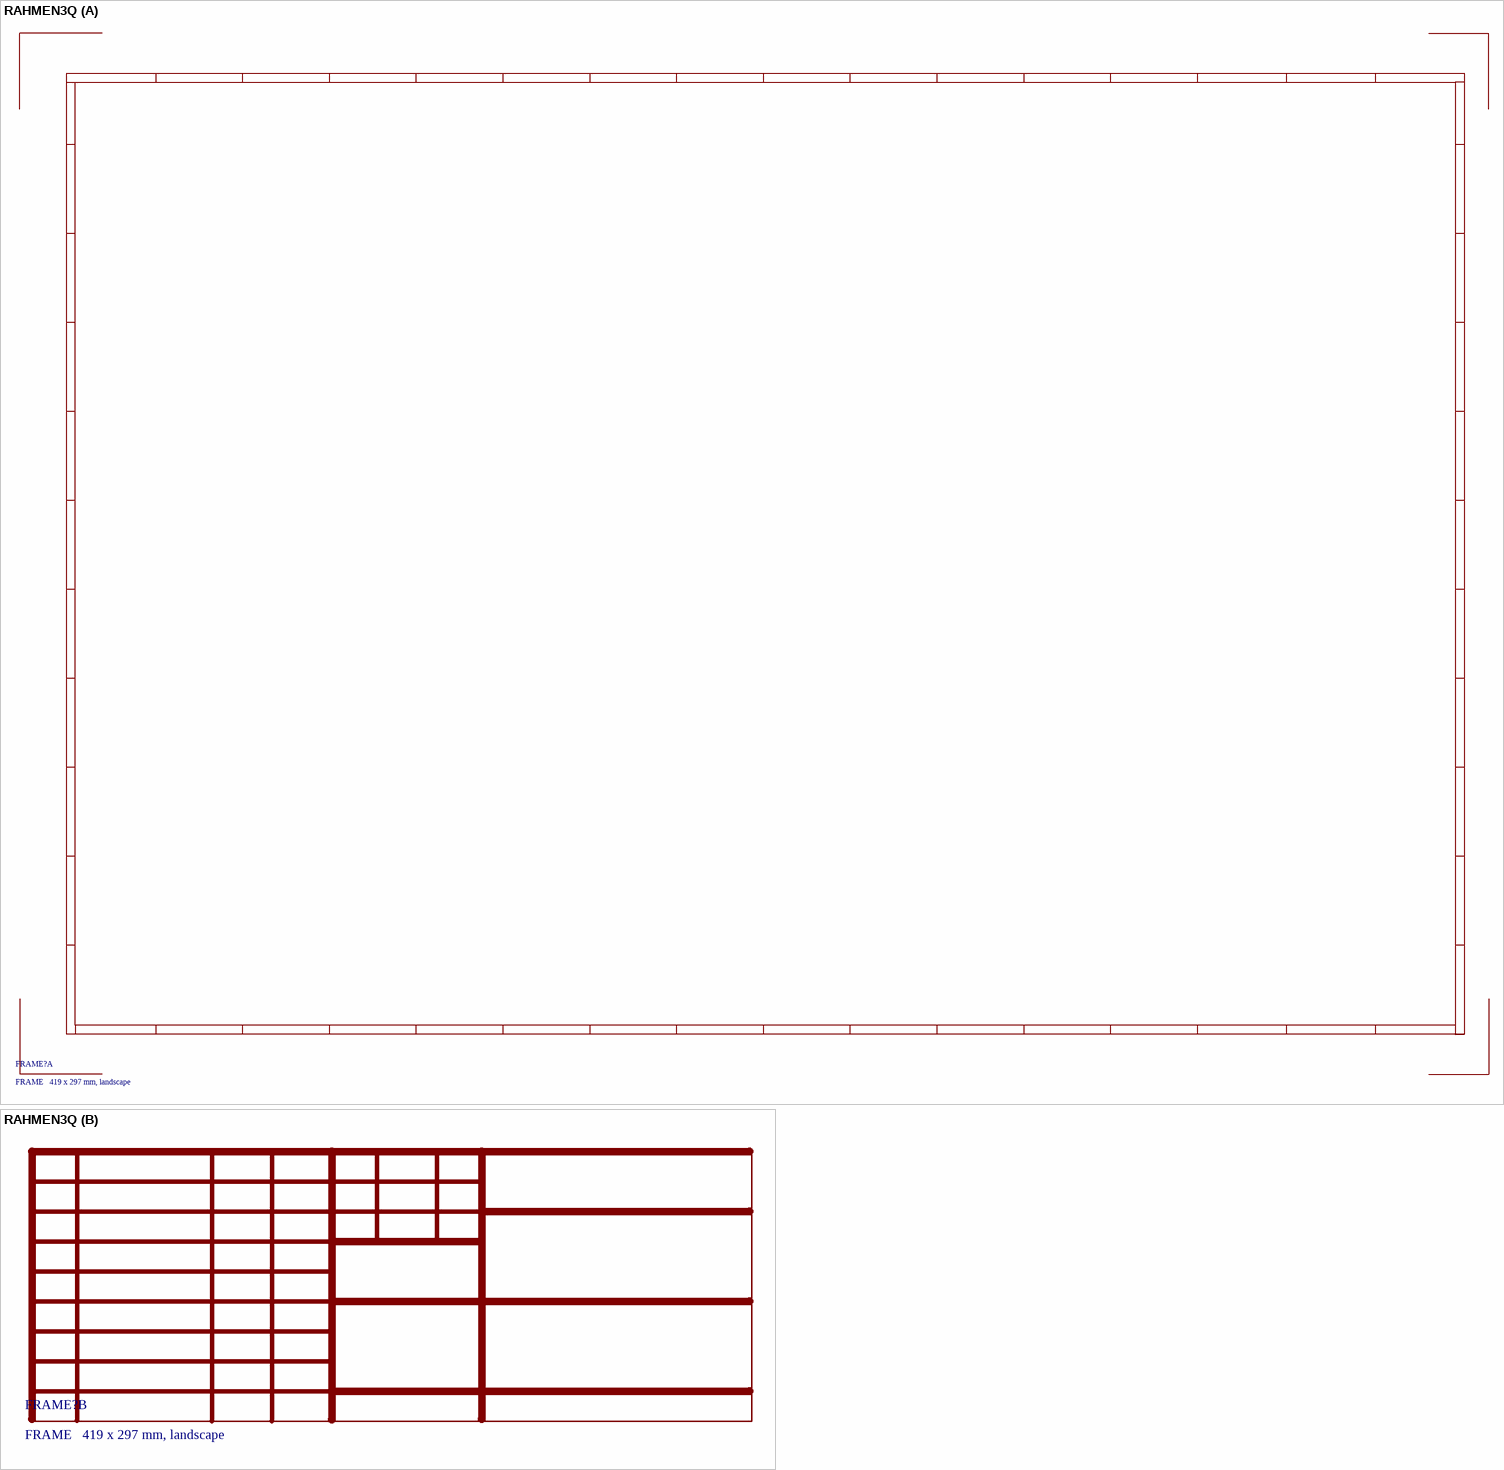
[diagram p21: symbol RAHMEN3Q]

## RAHMEN3Q
designator FRAME?, comment FRAME   419 x 297 mm, landscape

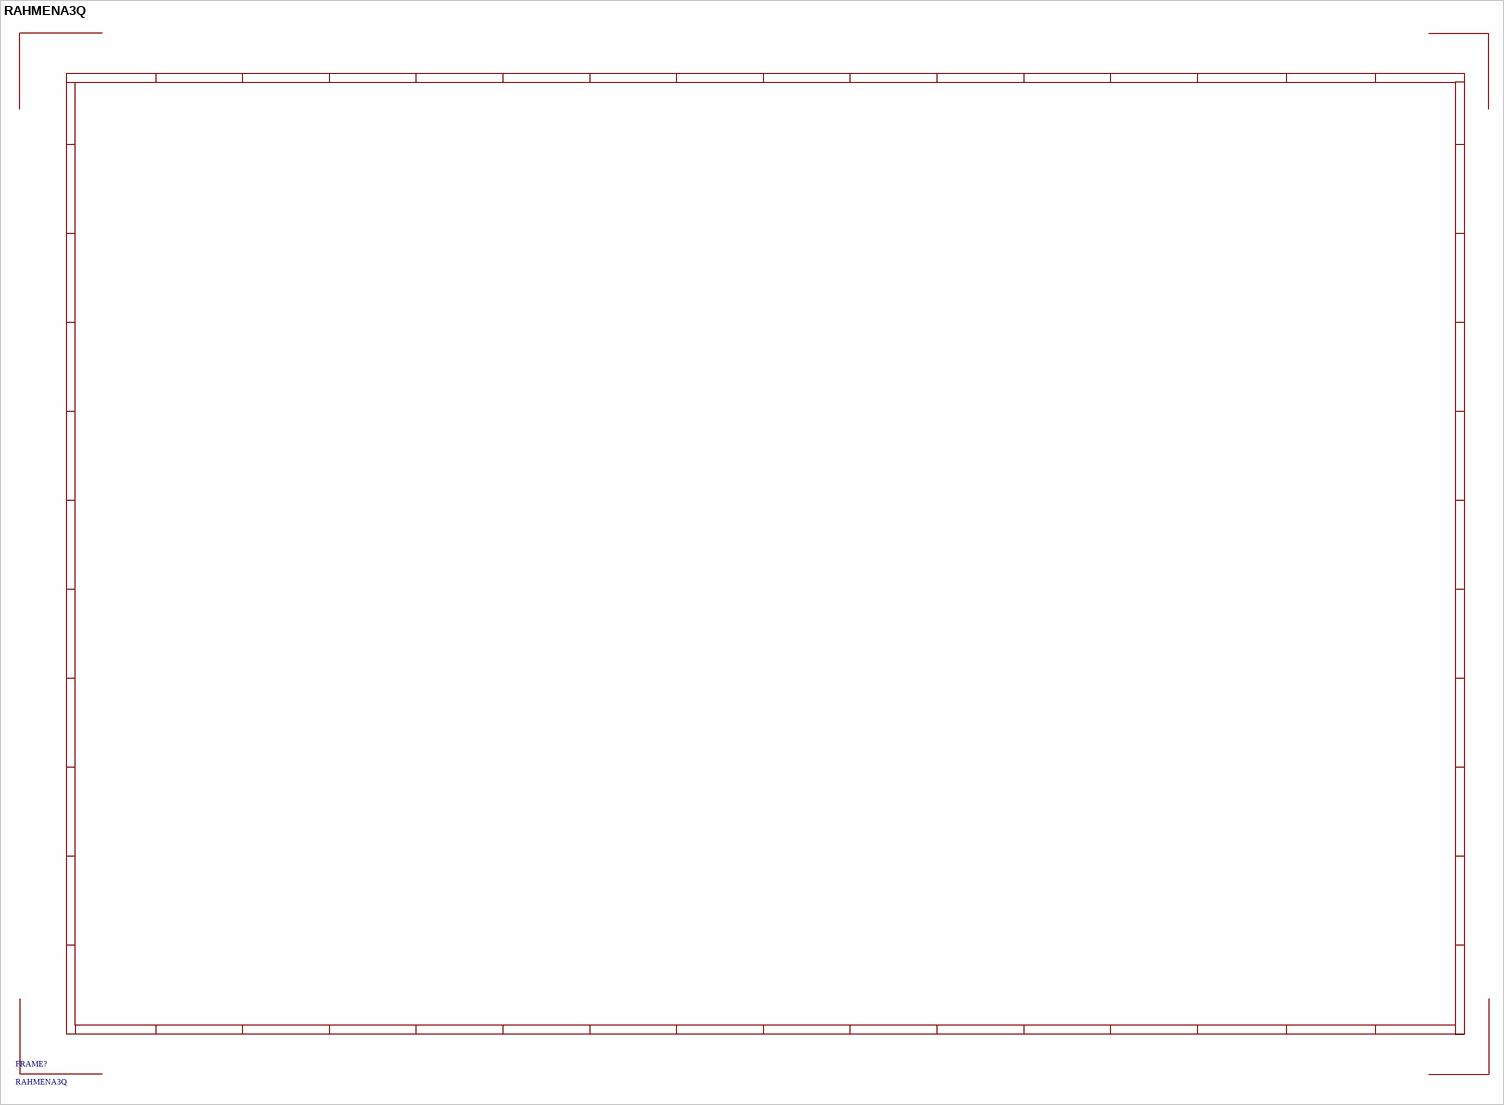
[diagram p22: symbol RAHMENA3Q]

## RAHMENA3Q
designator FRAME?